# Altium schematic symbol library Altera Cyclone V GX.SchLib: 50 symbols (part 1 of 31)
Pins are listed as number, name and electrical type; pins without a type are passive.

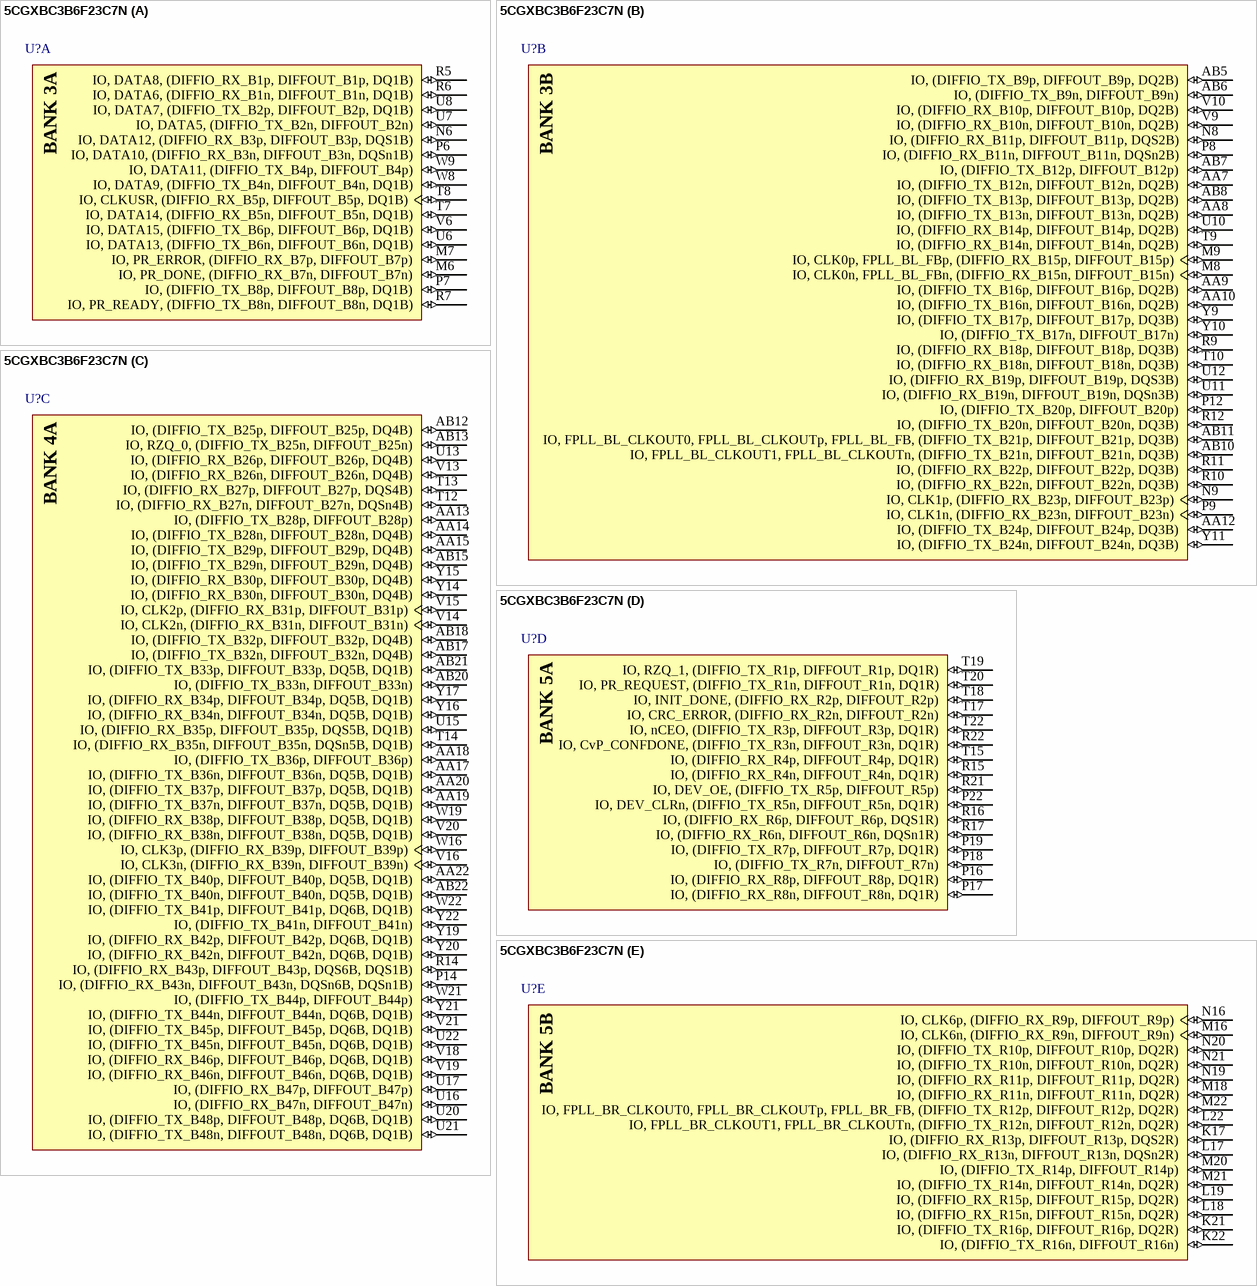
[diagram p0: symbol 5CGXBC3B6F23C7N]

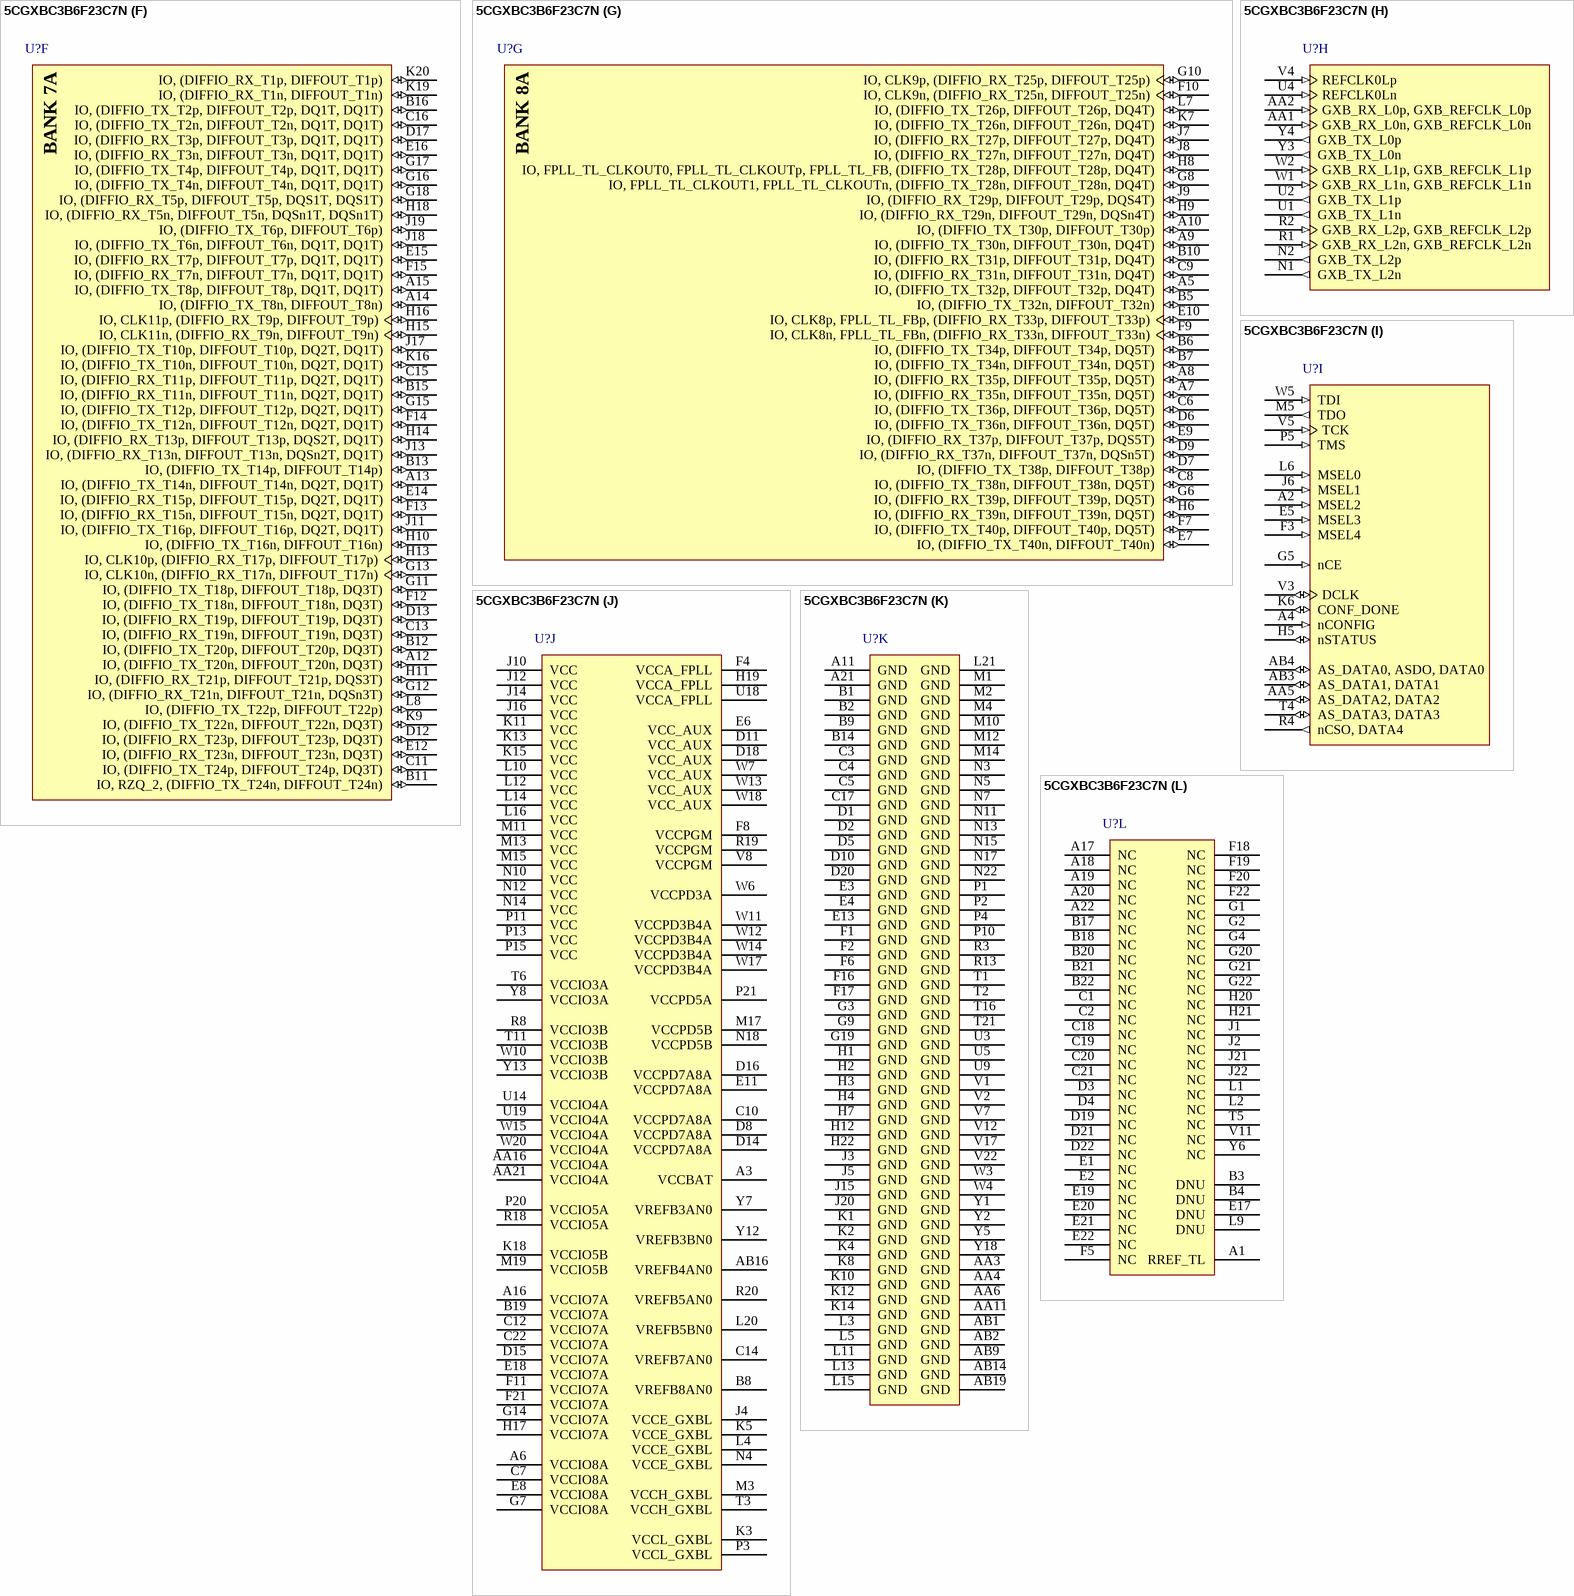
[diagram p1: symbol 5CGXBC3B6F23C7N]

## 5CGXBC3B6F23C7N
designator U?
Cyclone V GX Family FPGA, 1.07 to 1.13 V Supply, 208 I/O Pins, 4 PLLs, 484-Pin FBGA, Speed Grade 7, Commercial Grade, RoHS Compliant; Manufacturer: Altera; PartNumber: 5CGXBC3B6F23C7N; Device Group: 5CGXBC3; GPIO: 208; Logic Elements (LE) (K): 31.5; Speed Grade: 7; DatasheetVersion: Rev. 3.1; PackageVersion: 2; PackageReference: 484-FBGA-2000A; PackageDescription: 484-Pin FineLine Ball-Grid Array (FBGA), Body 23 x 23 mm, Pitch 1 mm; Supplier 1: Digi-Key; Supplier Part Number 1: 5CGXBC3B6F23C7N-ND; Supplier 2: Mouser; Supplier Part Number 2: 989-5CGXBC3B6F23C7N; RoHS: RoHS Compliant; Subcategory: Cyclone V GX; Voltage Supply: 1.07 to 1.13 V; Mounting Technology: Surface Mount; Code_JEDEC: MS-034-AAJ-1; ComponentLink1Description: Manufacturer URL; ComponentLink1URL: http://www.altera.com; ComponentLink2Description: Datasheet; ComponentLink2URL: http://www.altera.com/literature/hb/cyclone-v/cv_51002.pdf; ComponentLink3Description: Package Specification; ComponentLink3URL: http://www.altera.com/devicepackaging/04R00434-01.pdf; ComponentLink4Description: Device Handbook URL; ComponentLink4URL: http://www.altera.com/literature/hb/cyclone-v/cyclone5_handbook.pdf; ComponentLink5Description: Device Overview URL; ComponentLink5URL: http://www.altera.com/literature/hb/cyclone-v/cv_51001.pdf; ComponentLink6Description: Device Pin-Out URL; ComponentLink6URL: http://www.altera.com/literature/dp/cyclone-v/1.txt; ComponentLink7Description: Product URL; ComponentLink7URL: http://www.buyaltera.com/scripts/partsearch.dll?Detail&name=5CGXBC3B6F23C7N-ND
footprint ALTR-484-FBGA-2000A (FBGA, 484-Balls, Body 23x23mm, Pitch 1mm, Recommended)
part A pins: M6 IO, PR_DONE, (DIFFIO_RX_B7n, DIFFOUT_B7n) (io), M7 IO, PR_ERROR, (DIFFIO_RX_B7p, DIFFOUT_B7p) (io), N6 IO, DATA12, (DIFFIO_RX_B3p, DIFFOUT_B3p, DQS1B) (io), P6 IO, DATA10, (DIFFIO_RX_B3n, DIFFOUT_B3n, DQSn1B) (io), P7 IO, (DIFFIO_TX_B8p, DIFFOUT_B8p, DQ1B) (io), R5 IO, DATA8, (DIFFIO_RX_B1p, DIFFOUT_B1p, DQ1B) (io), R6 IO, DATA6, (DIFFIO_RX_B1n, DIFFOUT_B1n, DQ1B) (io), R7 IO, PR_READY, (DIFFIO_TX_B8n, DIFFOUT_B8n, DQ1B) (io), T7 IO, DATA14, (DIFFIO_RX_B5n, DIFFOUT_B5n, DQ1B) (io), T8 IO, CLKUSR, (DIFFIO_RX_B5p, DIFFOUT_B5p, DQ1B) (io), U6 IO, DATA13, (DIFFIO_TX_B6n, DIFFOUT_B6n, DQ1B) (io), U7 IO, DATA5, (DIFFIO_TX_B2n, DIFFOUT_B2n) (io), U8 IO, DATA7, (DIFFIO_TX_B2p, DIFFOUT_B2p, DQ1B) (io), V6 IO, DATA15, (DIFFIO_TX_B6p, DIFFOUT_B6p, DQ1B) (io), W8 IO, DATA9, (DIFFIO_TX_B4n, DIFFOUT_B4n, DQ1B) (io), W9 IO, DATA11, (DIFFIO_TX_B4p, DIFFOUT_B4p) (io)
part B pins: AA7 IO, (DIFFIO_TX_B12n, DIFFOUT_B12n, DQ2B) (io), AA8 IO, (DIFFIO_TX_B13n, DIFFOUT_B13n, DQ2B) (io), AA9 IO, (DIFFIO_TX_B16p, DIFFOUT_B16p, DQ2B) (io), AA10 IO, (DIFFIO_TX_B16n, DIFFOUT_B16n, DQ2B) (io), AA12 IO, (DIFFIO_TX_B24p, DIFFOUT_B24p, DQ3B) (io), AB5 IO, (DIFFIO_TX_B9p, DIFFOUT_B9p, DQ2B) (io), AB6 IO, (DIFFIO_TX_B9n, DIFFOUT_B9n) (io), AB7 IO, (DIFFIO_TX_B12p, DIFFOUT_B12p) (io), AB8 IO, (DIFFIO_TX_B13p, DIFFOUT_B13p, DQ2B) (io), AB10 IO, FPLL_BL_CLKOUT1, FPLL_BL_CLKOUTn, (DIFFIO_TX_B21n, DIFFOUT_B21n, DQ3B) (io), AB11 IO, FPLL_BL_CLKOUT0, FPLL_BL_CLKOUTp, FPLL_BL_FB, (DIFFIO_TX_B21p, DIFFOUT_B21p, DQ3B) (io), M8 IO, CLK0n, FPLL_BL_FBn, (DIFFIO_RX_B15n, DIFFOUT_B15n) (io), M9 IO, CLK0p, FPLL_BL_FBp, (DIFFIO_RX_B15p, DIFFOUT_B15p) (io), N8 IO, (DIFFIO_RX_B11p, DIFFOUT_B11p, DQS2B) (io), N9 IO, CLK1p, (DIFFIO_RX_B23p, DIFFOUT_B23p) (io), P8 IO, (DIFFIO_RX_B11n, DIFFOUT_B11n, DQSn2B) (io), P9 IO, CLK1n, (DIFFIO_RX_B23n, DIFFOUT_B23n) (io), P12 IO, (DIFFIO_TX_B20p, DIFFOUT_B20p) (io), R9 IO, (DIFFIO_RX_B18p, DIFFOUT_B18p, DQ3B) (io), R10 IO, (DIFFIO_RX_B22n, DIFFOUT_B22n, DQ3B) (io), R11 IO, (DIFFIO_RX_B22p, DIFFOUT_B22p, DQ3B) (io), R12 IO, (DIFFIO_TX_B20n, DIFFOUT_B20n, DQ3B) (io), T9 IO, (DIFFIO_RX_B14n, DIFFOUT_B14n, DQ2B) (io), T10 IO, (DIFFIO_RX_B18n, DIFFOUT_B18n, DQ3B) (io), U10 IO, (DIFFIO_RX_B14p, DIFFOUT_B14p, DQ2B) (io), U11 IO, (DIFFIO_RX_B19n, DIFFOUT_B19n, DQSn3B) (io), U12 IO, (DIFFIO_RX_B19p, DIFFOUT_B19p, DQS3B) (io), V9 IO, (DIFFIO_RX_B10n, DIFFOUT_B10n, DQ2B) (io), V10 IO, (DIFFIO_RX_B10p, DIFFOUT_B10p, DQ2B) (io), Y9 IO, (DIFFIO_TX_B17p, DIFFOUT_B17p, DQ3B) (io), Y10 IO, (DIFFIO_TX_B17n, DIFFOUT_B17n) (io), Y11 IO, (DIFFIO_TX_B24n, DIFFOUT_B24n, DQ3B) (io)
part C pins: AA13 IO, (DIFFIO_TX_B28p, DIFFOUT_B28p) (io), AA14 IO, (DIFFIO_TX_B28n, DIFFOUT_B28n, DQ4B) (io), AA15 IO, (DIFFIO_TX_B29p, DIFFOUT_B29p, DQ4B) (io), AA17 IO, (DIFFIO_TX_B36n, DIFFOUT_B36n, DQ5B, DQ1B) (io), AA18 IO, (DIFFIO_TX_B36p, DIFFOUT_B36p) (io), AA19 IO, (DIFFIO_TX_B37n, DIFFOUT_B37n, DQ5B, DQ1B) (io), AA20 IO, (DIFFIO_TX_B37p, DIFFOUT_B37p, DQ5B, DQ1B) (io), AA22 IO, (DIFFIO_TX_B40p, DIFFOUT_B40p, DQ5B, DQ1B) (io), AB12 IO, (DIFFIO_TX_B25p, DIFFOUT_B25p, DQ4B) (io), AB13 IO, RZQ_0, (DIFFIO_TX_B25n, DIFFOUT_B25n) (io), AB15 IO, (DIFFIO_TX_B29n, DIFFOUT_B29n, DQ4B) (io), AB17 IO, (DIFFIO_TX_B32n, DIFFOUT_B32n, DQ4B) (io), AB18 IO, (DIFFIO_TX_B32p, DIFFOUT_B32p, DQ4B) (io), AB20 IO, (DIFFIO_TX_B33n, DIFFOUT_B33n) (io), AB21 IO, (DIFFIO_TX_B33p, DIFFOUT_B33p, DQ5B, DQ1B) (io), AB22 IO, (DIFFIO_TX_B40n, DIFFOUT_B40n, DQ5B, DQ1B) (io), P14 IO, (DIFFIO_RX_B43n, DIFFOUT_B43n, DQSn6B, DQSn1B) (io), R14 IO, (DIFFIO_RX_B43p, DIFFOUT_B43p, DQS6B, DQS1B) (io), T12 IO, (DIFFIO_RX_B27n, DIFFOUT_B27n, DQSn4B) (io), T13 IO, (DIFFIO_RX_B27p, DIFFOUT_B27p, DQS4B) (io), T14 IO, (DIFFIO_RX_B35n, DIFFOUT_B35n, DQSn5B, DQ1B) (io), U13 IO, (DIFFIO_RX_B26p, DIFFOUT_B26p, DQ4B) (io), U15 IO, (DIFFIO_RX_B35p, DIFFOUT_B35p, DQS5B, DQ1B) (io), U16 IO, (DIFFIO_RX_B47n, DIFFOUT_B47n) (io), U17 IO, (DIFFIO_RX_B47p, DIFFOUT_B47p) (io), U20 IO, (DIFFIO_TX_B48p, DIFFOUT_B48p, DQ6B, DQ1B) (io), U21 IO, (DIFFIO_TX_B48n, DIFFOUT_B48n, DQ6B, DQ1B) (io), U22 IO, (DIFFIO_TX_B45n, DIFFOUT_B45n, DQ6B, DQ1B) (io), V13 IO, (DIFFIO_RX_B26n, DIFFOUT_B26n, DQ4B) (io), V14 IO, CLK2n, (DIFFIO_RX_B31n, DIFFOUT_B31n) (io), V15 IO, CLK2p, (DIFFIO_RX_B31p, DIFFOUT_B31p) (io), V16 IO, CLK3n, (DIFFIO_RX_B39n, DIFFOUT_B39n) (io), V18 IO, (DIFFIO_RX_B46p, DIFFOUT_B46p, DQ6B, DQ1B) (io), V19 IO, (DIFFIO_RX_B46n, DIFFOUT_B46n, DQ6B, DQ1B) (io), V20 IO, (DIFFIO_RX_B38n, DIFFOUT_B38n, DQ5B, DQ1B) (io), V21 IO, (DIFFIO_TX_B45p, DIFFOUT_B45p, DQ6B, DQ1B) (io), W16 IO, CLK3p, (DIFFIO_RX_B39p, DIFFOUT_B39p) (io), W19 IO, (DIFFIO_RX_B38p, DIFFOUT_B38p, DQ5B, DQ1B) (io), W21 IO, (DIFFIO_TX_B44p, DIFFOUT_B44p) (io), W22 IO, (DIFFIO_TX_B41p, DIFFOUT_B41p, DQ6B, DQ1B) (io), Y14 IO, (DIFFIO_RX_B30n, DIFFOUT_B30n, DQ4B) (io), Y15 IO, (DIFFIO_RX_B30p, DIFFOUT_B30p, DQ4B) (io), Y16 IO, (DIFFIO_RX_B34n, DIFFOUT_B34n, DQ5B, DQ1B) (io), Y17 IO, (DIFFIO_RX_B34p, DIFFOUT_B34p, DQ5B, DQ1B) (io), Y19 IO, (DIFFIO_RX_B42p, DIFFOUT_B42p, DQ6B, DQ1B) (io), Y20 IO, (DIFFIO_RX_B42n, DIFFOUT_B42n, DQ6B, DQ1B) (io), Y21 IO, (DIFFIO_TX_B44n, DIFFOUT_B44n, DQ6B, DQ1B) (io), Y22 IO, (DIFFIO_TX_B41n, DIFFOUT_B41n) (io)
part D pins: P16 IO, (DIFFIO_RX_R8p, DIFFOUT_R8p, DQ1R) (io), P17 IO, (DIFFIO_RX_R8n, DIFFOUT_R8n, DQ1R) (io), P18 IO, (DIFFIO_TX_R7n, DIFFOUT_R7n) (io), P19 IO, (DIFFIO_TX_R7p, DIFFOUT_R7p, DQ1R) (io), P22 IO, DEV_CLRn, (DIFFIO_TX_R5n, DIFFOUT_R5n, DQ1R) (io), R15 IO, (DIFFIO_RX_R4n, DIFFOUT_R4n, DQ1R) (io), R16 IO, (DIFFIO_RX_R6p, DIFFOUT_R6p, DQS1R) (io), R17 IO, (DIFFIO_RX_R6n, DIFFOUT_R6n, DQSn1R) (io), R21 IO, DEV_OE, (DIFFIO_TX_R5p, DIFFOUT_R5p) (io), R22 IO, CvP_CONFDONE, (DIFFIO_TX_R3n, DIFFOUT_R3n, DQ1R) (io), T15 IO, (DIFFIO_RX_R4p, DIFFOUT_R4p, DQ1R) (io), T17 IO, CRC_ERROR, (DIFFIO_RX_R2n, DIFFOUT_R2n) (io), T18 IO, INIT_DONE, (DIFFIO_RX_R2p, DIFFOUT_R2p) (io), T19 IO, RZQ_1, (DIFFIO_TX_R1p, DIFFOUT_R1p, DQ1R) (io), T20 IO, PR_REQUEST, (DIFFIO_TX_R1n, DIFFOUT_R1n, DQ1R) (io), T22 IO, nCEO, (DIFFIO_TX_R3p, DIFFOUT_R3p, DQ1R) (io)
part E pins: K17 IO, (DIFFIO_RX_R13p, DIFFOUT_R13p, DQS2R) (io), K21 IO, (DIFFIO_TX_R16p, DIFFOUT_R16p, DQ2R) (io), K22 IO, (DIFFIO_TX_R16n, DIFFOUT_R16n) (io), L17 IO, (DIFFIO_RX_R13n, DIFFOUT_R13n, DQSn2R) (io), L18 IO, (DIFFIO_RX_R15n, DIFFOUT_R15n, DQ2R) (io), L19 IO, (DIFFIO_RX_R15p, DIFFOUT_R15p, DQ2R) (io), L22 IO, FPLL_BR_CLKOUT1, FPLL_BR_CLKOUTn, (DIFFIO_TX_R12n, DIFFOUT_R12n, DQ2R) (io), M16 IO, CLK6n, (DIFFIO_RX_R9n, DIFFOUT_R9n) (io), M18 IO, (DIFFIO_RX_R11n, DIFFOUT_R11n, DQ2R) (io), M20 IO, (DIFFIO_TX_R14p, DIFFOUT_R14p) (io), M21 IO, (DIFFIO_TX_R14n, DIFFOUT_R14n, DQ2R) (io), M22 IO, FPLL_BR_CLKOUT0, FPLL_BR_CLKOUTp, FPLL_BR_FB, (DIFFIO_TX_R12p, DIFFOUT_R12p, DQ2R) (io), N16 IO, CLK6p, (DIFFIO_RX_R9p, DIFFOUT_R9p) (io), N19 IO, (DIFFIO_RX_R11p, DIFFOUT_R11p, DQ2R) (io), N20 IO, (DIFFIO_TX_R10p, DIFFOUT_R10p, DQ2R) (io), N21 IO, (DIFFIO_TX_R10n, DIFFOUT_R10n, DQ2R) (io)
part F pins: A12 IO, (DIFFIO_TX_T20n, DIFFOUT_T20n, DQ3T) (io), A13 IO, (DIFFIO_TX_T14n, DIFFOUT_T14n, DQ2T, DQ1T) (io), A14 IO, (DIFFIO_TX_T8n, DIFFOUT_T8n) (io), A15 IO, (DIFFIO_TX_T8p, DIFFOUT_T8p, DQ1T, DQ1T) (io), B11 IO, RZQ_2, (DIFFIO_TX_T24n, DIFFOUT_T24n) (io), B12 IO, (DIFFIO_TX_T20p, DIFFOUT_T20p, DQ3T) (io), B13 IO, (DIFFIO_TX_T14p, DIFFOUT_T14p) (io), B15 IO, (DIFFIO_RX_T11n, DIFFOUT_T11n, DQ2T, DQ1T) (io), B16 IO, (DIFFIO_TX_T2p, DIFFOUT_T2p, DQ1T, DQ1T) (io), C11 IO, (DIFFIO_TX_T24p, DIFFOUT_T24p, DQ3T) (io), C13 IO, (DIFFIO_RX_T19n, DIFFOUT_T19n, DQ3T) (io), C15 IO, (DIFFIO_RX_T11p, DIFFOUT_T11p, DQ2T, DQ1T) (io), C16 IO, (DIFFIO_TX_T2n, DIFFOUT_T2n, DQ1T, DQ1T) (io), D12 IO, (DIFFIO_RX_T23p, DIFFOUT_T23p, DQ3T) (io), D13 IO, (DIFFIO_RX_T19p, DIFFOUT_T19p, DQ3T) (io), D17 IO, (DIFFIO_RX_T3p, DIFFOUT_T3p, DQ1T, DQ1T) (io), E12 IO, (DIFFIO_RX_T23n, DIFFOUT_T23n, DQ3T) (io), E14 IO, (DIFFIO_RX_T15p, DIFFOUT_T15p, DQ2T, DQ1T) (io), E15 IO, (DIFFIO_RX_T7p, DIFFOUT_T7p, DQ1T, DQ1T) (io), E16 IO, (DIFFIO_RX_T3n, DIFFOUT_T3n, DQ1T, DQ1T) (io), F12 IO, (DIFFIO_TX_T18n, DIFFOUT_T18n, DQ3T) (io), F13 IO, (DIFFIO_RX_T15n, DIFFOUT_T15n, DQ2T, DQ1T) (io), F14 IO, (DIFFIO_TX_T12n, DIFFOUT_T12n, DQ2T, DQ1T) (io), F15 IO, (DIFFIO_RX_T7n, DIFFOUT_T7n, DQ1T, DQ1T) (io), G11 IO, (DIFFIO_TX_T18p, DIFFOUT_T18p, DQ3T) (io), G12 IO, (DIFFIO_RX_T21n, DIFFOUT_T21n, DQSn3T) (io), G13 IO, CLK10n, (DIFFIO_RX_T17n, DIFFOUT_T17n) (io), G15 IO, (DIFFIO_TX_T12p, DIFFOUT_T12p, DQ2T, DQ1T) (io), G16 IO, (DIFFIO_TX_T4n, DIFFOUT_T4n, DQ1T, DQ1T) (io), G17 IO, (DIFFIO_TX_T4p, DIFFOUT_T4p, DQ1T, DQ1T) (io), G18 IO, (DIFFIO_RX_T5p, DIFFOUT_T5p, DQS1T, DQS1T) (io), H10 IO, (DIFFIO_TX_T16n, DIFFOUT_T16n) (io), H11 IO, (DIFFIO_RX_T21p, DIFFOUT_T21p, DQS3T) (io), H13 IO, CLK10p, (DIFFIO_RX_T17p, DIFFOUT_T17p) (io), H14 IO, (DIFFIO_RX_T13p, DIFFOUT_T13p, DQS2T, DQ1T) (io), H15 IO, CLK11n, (DIFFIO_RX_T9n, DIFFOUT_T9n) (io), H16 IO, CLK11p, (DIFFIO_RX_T9p, DIFFOUT_T9p) (io), H18 IO, (DIFFIO_RX_T5n, DIFFOUT_T5n, DQSn1T, DQSn1T) (io), J11 IO, (DIFFIO_TX_T16p, DIFFOUT_T16p, DQ2T, DQ1T) (io), J13 IO, (DIFFIO_RX_T13n, DIFFOUT_T13n, DQSn2T, DQ1T) (io), J17 IO, (DIFFIO_TX_T10p, DIFFOUT_T10p, DQ2T, DQ1T) (io), J18 IO, (DIFFIO_TX_T6n, DIFFOUT_T6n, DQ1T, DQ1T) (io), J19 IO, (DIFFIO_TX_T6p, DIFFOUT_T6p) (io), K9 IO, (DIFFIO_TX_T22n, DIFFOUT_T22n, DQ3T) (io), K16 IO, (DIFFIO_TX_T10n, DIFFOUT_T10n, DQ2T, DQ1T) (io), K19 IO, (DIFFIO_RX_T1n, DIFFOUT_T1n) (io), K20 IO, (DIFFIO_RX_T1p, DIFFOUT_T1p) (io), L8 IO, (DIFFIO_TX_T22p, DIFFOUT_T22p) (io)
part G pins: A5 IO, (DIFFIO_TX_T32p, DIFFOUT_T32p, DQ4T) (io), A7 IO, (DIFFIO_RX_T35n, DIFFOUT_T35n, DQ5T) (io), A8 IO, (DIFFIO_RX_T35p, DIFFOUT_T35p, DQ5T) (io), A9 IO, (DIFFIO_TX_T30n, DIFFOUT_T30n, DQ4T) (io), A10 IO, (DIFFIO_TX_T30p, DIFFOUT_T30p) (io), B5 IO, (DIFFIO_TX_T32n, DIFFOUT_T32n) (io), B6 IO, (DIFFIO_TX_T34p, DIFFOUT_T34p, DQ5T) (io), B7 IO, (DIFFIO_TX_T34n, DIFFOUT_T34n, DQ5T) (io), B10 IO, (DIFFIO_RX_T31p, DIFFOUT_T31p, DQ4T) (io), C6 IO, (DIFFIO_TX_T36p, DIFFOUT_T36p, DQ5T) (io), C8 IO, (DIFFIO_TX_T38n, DIFFOUT_T38n, DQ5T) (io), C9 IO, (DIFFIO_RX_T31n, DIFFOUT_T31n, DQ4T) (io), D6 IO, (DIFFIO_TX_T36n, DIFFOUT_T36n, DQ5T) (io), D7 IO, (DIFFIO_TX_T38p, DIFFOUT_T38p) (io), D9 IO, (DIFFIO_RX_T37n, DIFFOUT_T37n, DQSn5T) (io), E7 IO, (DIFFIO_TX_T40n, DIFFOUT_T40n) (io), E9 IO, (DIFFIO_RX_T37p, DIFFOUT_T37p, DQS5T) (io), E10 IO, CLK8p, FPLL_TL_FBp, (DIFFIO_RX_T33p, DIFFOUT_T33p) (io), F7 IO, (DIFFIO_TX_T40p, DIFFOUT_T40p, DQ5T) (io), F9 IO, CLK8n, FPLL_TL_FBn, (DIFFIO_RX_T33n, DIFFOUT_T33n) (io), F10 IO, CLK9n, (DIFFIO_RX_T25n, DIFFOUT_T25n) (io), G6 IO, (DIFFIO_RX_T39p, DIFFOUT_T39p, DQ5T) (io), G8 IO, FPLL_TL_CLKOUT1, FPLL_TL_CLKOUTn, (DIFFIO_TX_T28n, DIFFOUT_T28n, DQ4T) (io), G10 IO, CLK9p, (DIFFIO_RX_T25p, DIFFOUT_T25p) (io), H6 IO, (DIFFIO_RX_T39n, DIFFOUT_T39n, DQ5T) (io), H8 IO, FPLL_TL_CLKOUT0, FPLL_TL_CLKOUTp, FPLL_TL_FB, (DIFFIO_TX_T28p, DIFFOUT_T28p, DQ4T) (io), H9 IO, (DIFFIO_RX_T29n, DIFFOUT_T29n, DQSn4T) (io), J7 IO, (DIFFIO_RX_T27p, DIFFOUT_T27p, DQ4T) (io), J8 IO, (DIFFIO_RX_T27n, DIFFOUT_T27n, DQ4T) (io), J9 IO, (DIFFIO_RX_T29p, DIFFOUT_T29p, DQS4T) (io), K7 IO, (DIFFIO_TX_T26n, DIFFOUT_T26n, DQ4T) (io), L7 IO, (DIFFIO_TX_T26p, DIFFOUT_T26p, DQ4T) (io)
part H pins: AA1 GXB_RX_L0n, GXB_REFCLK_L0n (in), AA2 GXB_RX_L0p, GXB_REFCLK_L0p (in), N1 GXB_TX_L2n (out), N2 GXB_TX_L2p (out), R1 GXB_RX_L2n, GXB_REFCLK_L2n (in), R2 GXB_RX_L2p, GXB_REFCLK_L2p (in), U1 GXB_TX_L1n (out), U2 GXB_TX_L1p (out), U4 REFCLK0Ln (in), V4 REFCLK0Lp (in), W1 GXB_RX_L1n, GXB_REFCLK_L1n (in), W2 GXB_RX_L1p, GXB_REFCLK_L1p (in), Y3 GXB_TX_L0n (out), Y4 GXB_TX_L0p (out)
part I pins: A2 MSEL2 (in), A4 nCONFIG (in), AA5 AS_DATA2, DATA2 (io), AB3 AS_DATA1, DATA1 (io), AB4 AS_DATA0, ASDO, DATA0 (io), E5 MSEL3 (in), F3 MSEL4 (in), G5 nCE (in), H5 nSTATUS (io), J6 MSEL1 (in), K6 CONF_DONE (io), L6 MSEL0 (in), M5 TDO (out), P5 TMS (in), R4 nCSO, DATA4 (out), T4 AS_DATA3, DATA3 (io), V3 DCLK (io), V5 TCK (in), W5 TDI (in)
part J pins: A3 VCCBAT (power), A6 VCCIO8A (power), A16 VCCIO7A (power), AA16 VCCIO4A (power), AA21 VCCIO4A (power), AB16 VREFB4AN0 (power), B8 VREFB8AN0 (power), B19 VCCIO7A (power), C7 VCCIO8A (power), C10 VCCPD7A8A (power), C12 VCCIO7A (power), C14 VREFB7AN0 (power), C22 VCCIO7A (power), D8 VCCPD7A8A (power), D11 VCC_AUX (power), D14 VCCPD7A8A (power), D15 VCCIO7A (power), D16 VCCPD7A8A (power), D18 VCC_AUX (power), E6 VCC_AUX (power), E8 VCCIO8A (power), E11 VCCPD7A8A (power), E18 VCCIO7A (power), F4 VCCA_FPLL (power), F8 VCCPGM (power), F11 VCCIO7A (power), F21 VCCIO7A (power), G7 VCCIO8A (power), G14 VCCIO7A (power), H17 VCCIO7A (power), H19 VCCA_FPLL (power), J4 VCCE_GXBL (power), J10 VCC (power), J12 VCC (power), J14 VCC (power), J16 VCC (power), K3 VCCL_GXBL (power), K5 VCCE_GXBL (power), K11 VCC (power), K13 VCC (power), K15 VCC (power), K18 VCCIO5B (power), L4 VCCE_GXBL (power), L10 VCC (power), L12 VCC (power), L14 VCC (power), L16 VCC (power), L20 VREFB5BN0 (power), M3 VCCH_GXBL (power), M11 VCC (power), M13 VCC (power), M15 VCC (power), M17 VCCPD5B (power), M19 VCCIO5B (power), N4 VCCE_GXBL (power), N10 VCC (power), N12 VCC (power), N14 VCC (power), N18 VCCPD5B (power), P3 VCCL_GXBL (power), P11 VCC (power), P13 VCC (power), P15 VCC (power), P20 VCCIO5A (power), P21 VCCPD5A (power), R8 VCCIO3B (power), R18 VCCIO5A (power), R19 VCCPGM (power), R20 VREFB5AN0 (power), T3 VCCH_GXBL (power), T6 VCCIO3A (power), T11 VCCIO3B (power), U14 VCCIO4A (power), U18 VCCA_FPLL (power), U19 VCCIO4A (power), V8 VCCPGM (power), W6 VCCPD3A (power), W7 VCC_AUX (power), W10 VCCIO3B (power), W11 VCCPD3B4A (power), W12 VCCPD3B4A (power), W13 VCC_AUX (power), W14 VCCPD3B4A (power), W15 VCCIO4A (power), W17 VCCPD3B4A (power), W18 VCC_AUX (power), W20 VCCIO4A (power), Y7 VREFB3AN0 (power), Y8 VCCIO3A (power), Y12 VREFB3BN0 (power), Y13 VCCIO3B (power)
part K pins: A11 GND (power), A21 GND (power), AA3 GND (power), AA4 GND (power), AA6 GND (power), AA11 GND (power), AB1 GND (power), AB2 GND (power), AB9 GND (power), AB14 GND (power), AB19 GND (power), B1 GND (power), B2 GND (power), B9 GND (power), B14 GND (power), C3 GND (power), C4 GND (power), C5 GND (power), C17 GND (power), D1 GND (power), D2 GND (power), D5 GND (power), D10 GND (power), D20 GND (power), E3 GND (power), E4 GND (power), E13 GND (power), F1 GND (power), F2 GND (power), F6 GND (power), F16 GND (power), F17 GND (power), G3 GND (power), G9 GND (power), G19 GND (power), H1 GND (power), H2 GND (power), H3 GND (power), H4 GND (power), H7 GND (power), H12 GND (power), H22 GND (power), J3 GND (power), J5 GND (power), J15 GND (power), J20 GND (power), K1 GND (power), K2 GND (power), K4 GND (power), K8 GND (power), K10 GND (power), K12 GND (power), K14 GND (power), L3 GND (power), L5 GND (power), L11 GND (power), L13 GND (power), L15 GND (power), L21 GND (power), M1 GND (power), M2 GND (power), M4 GND (power), M10 GND (power), M12 GND (power), M14 GND (power), N3 GND (power), N5 GND (power), N7 GND (power), N11 GND (power), N13 GND (power), N15 GND (power), N17 GND (power), N22 GND (power), P1 GND (power), P2 GND (power), P4 GND (power), P10 GND (power), R3 GND (power), R13 GND (power), T1 GND (power), T2 GND (power), T16 GND (power), T21 GND (power), U3 GND (power), U5 GND (power), U9 GND (power), V1 GND (power), V2 GND (power), V7 GND (power), V12 GND (power), V17 GND (power), V22 GND (power), W3 GND (power), W4 GND (power), Y1 GND (power), Y2 GND (power), Y5 GND (power), Y18 GND (power)
part L pins: A1 RREF_TL, A17 NC, A18 NC, A19 NC, A20 NC, A22 NC, B3 DNU, B4 DNU, B17 NC, B18 NC, B20 NC, B21 NC, B22 NC, C1 NC, C2 NC, C18 NC, C19 NC, C20 NC, C21 NC, D3 NC, D4 NC, D19 NC, D21 NC, D22 NC, E1 NC, E2 NC, E17 DNU, E19 NC, E20 NC, E21 NC, E22 NC, F5 NC, F18 NC, F19 NC, F20 NC, F22 NC, G1 NC, G2 NC, G4 NC, G20 NC, G21 NC, G22 NC, H20 NC, H21 NC, J1 NC, J2 NC, J21 NC, J22 NC, L1 NC, L2 NC, L9 DNU, T5 NC, V11 NC, Y6 NC
part A text: BANK 3A
part B text: BANK 3B
part C text: BANK 4A
part D text: BANK 5A
part E text: BANK 5B
part F text: BANK 7A
part G text: BANK 8A

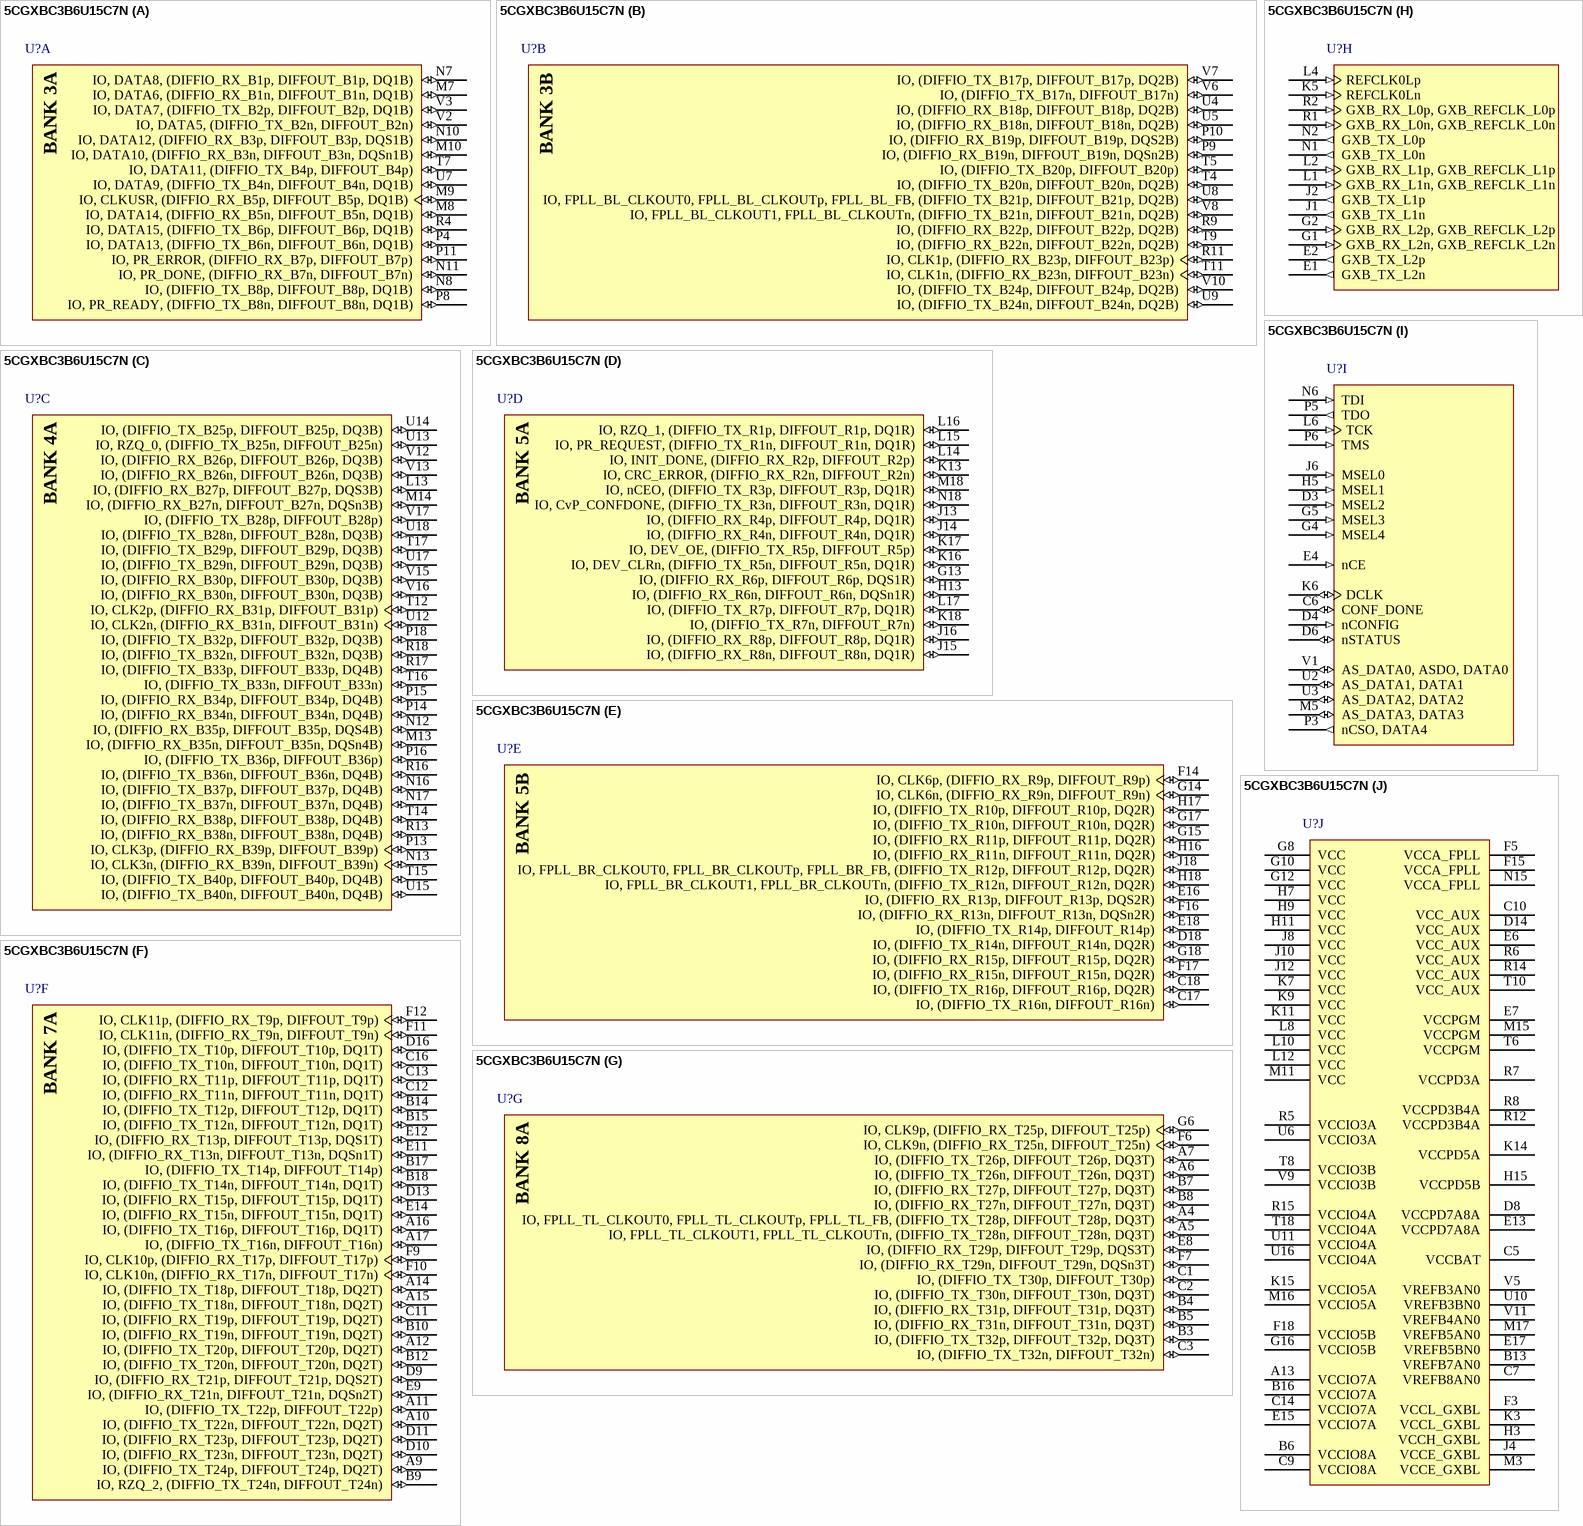
[diagram p2: symbol 5CGXBC3B6U15C7N]

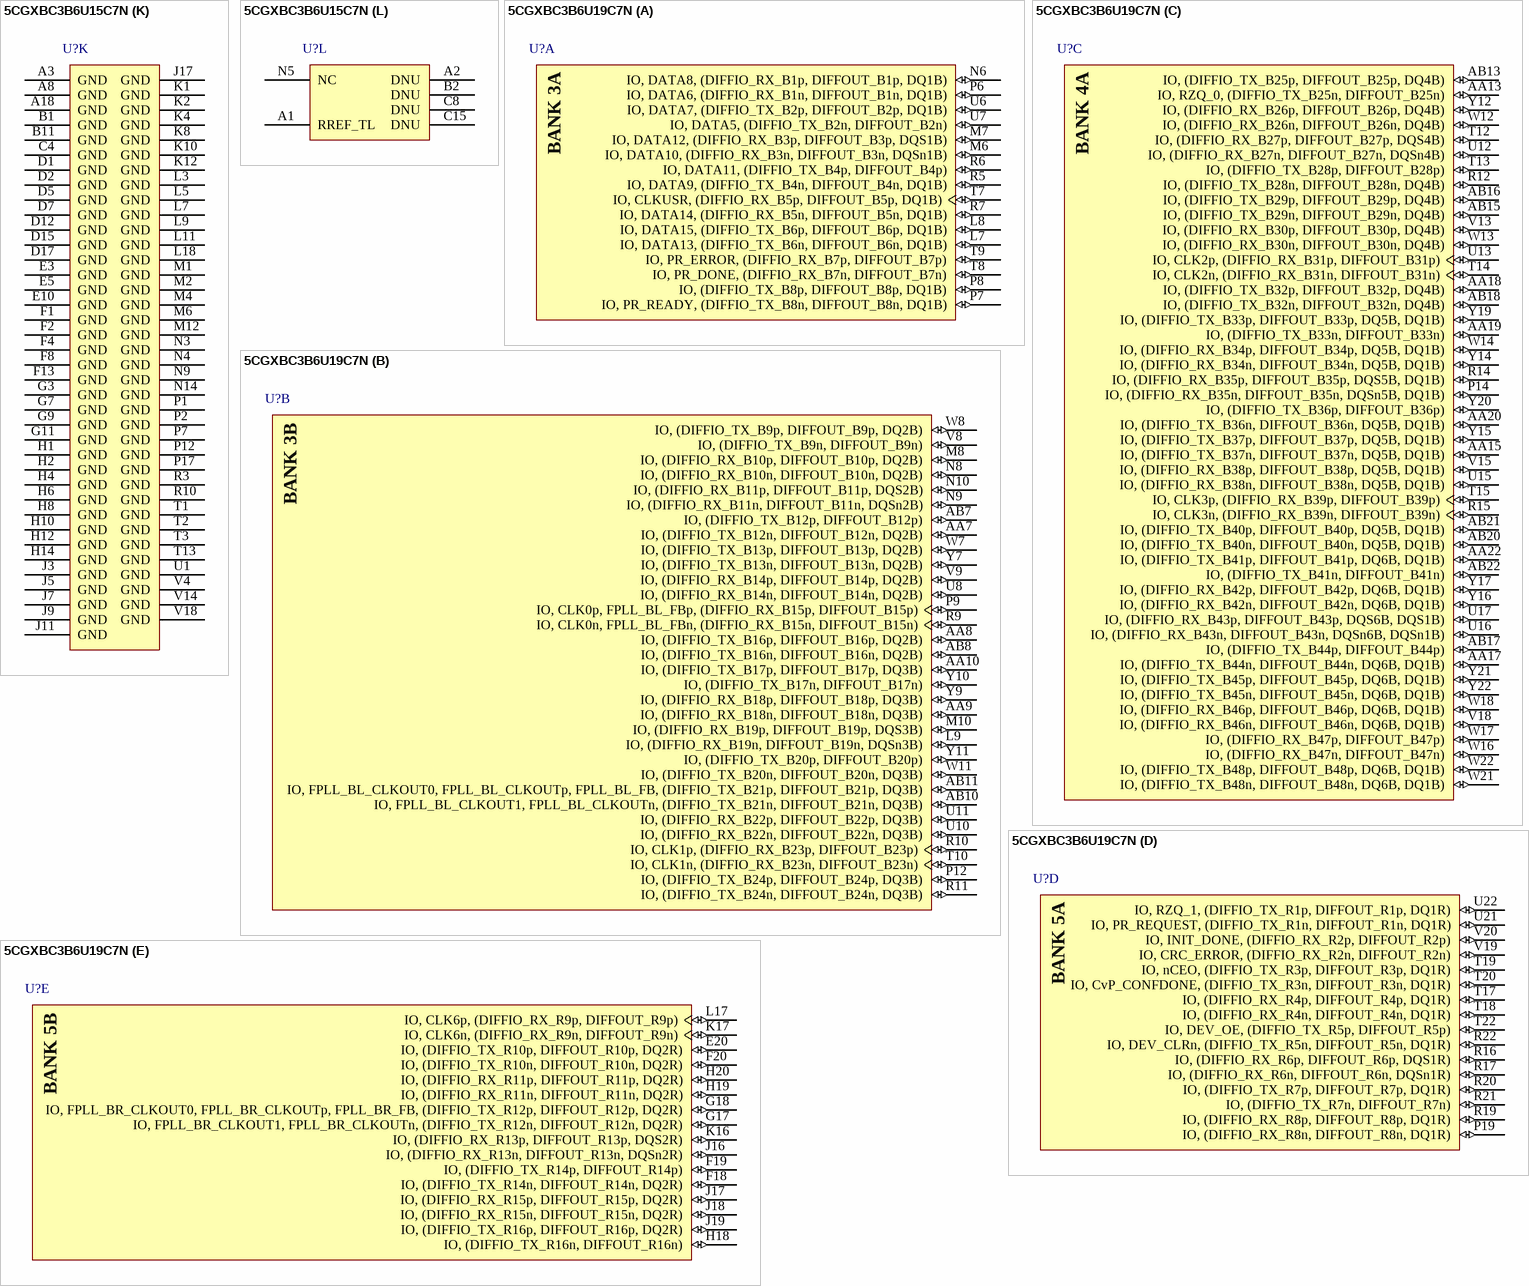
[diagram p3: symbols 5CGXBC3B6U15C7N to 5CGXBC3B6U19C7N]

## 5CGXBC3B6U15C7N
designator U?
Cyclone V GX Family FPGA, 1.07 to 1.13 V Supply, 144 I/O Pins, 4 PLLs, 324-Pin UBGA, Speed Grade 7, Commercial Grade, RoHS Compliant; Manufacturer: Altera; PartNumber: 5CGXBC3B6U15C7N; Device Group: 5CGXBC3; GPIO: 144; Logic Elements (LE) (K): 31.5; Speed Grade: 7; DatasheetVersion: Rev. 3.1; PackageVersion: 1; PackageReference: 324-UBGA-1500A; PackageDescription: 324-Pin Ultra FineLine Ball-Grid Array (UBGA), Body 15 x 15 mm, Pitch 0.8 mm; Supplier 1: Digi-Key; Supplier Part Number 1: 5CGXBC3B6U15C7N-ND; Supplier 2: Mouser; Supplier Part Number 2: 989-5CGXBC3B6U15C7N; RoHS: RoHS Compliant; Subcategory: Cyclone V GX; Voltage Supply: 1.07 to 1.13 V; Mounting Technology: Surface Mount; Code_JEDEC: MO-216-BAK-1; ComponentLink1Description: Manufacturer URL; ComponentLink1URL: http://www.altera.com; ComponentLink2Description: Datasheet; ComponentLink2URL: http://www.altera.com/literature/hb/cyclone-v/cv_51002.pdf; ComponentLink3Description: Package Specification; ComponentLink3URL: http://www.altera.com/devicepackaging/04R00433-00.pdf; ComponentLink4Description: Device Handbook URL; ComponentLink4URL: http://www.altera.com/literature/hb/cyclone-v/cyclone5_handbook.pdf; ComponentLink5Description: Device Overview URL; ComponentLink5URL: http://www.altera.com/literature/hb/cyclone-v/cv_51001.pdf; ComponentLink6Description: Device Pin-Out URL; ComponentLink6URL: http://www.altera.com/literature/dp/cyclone-v/1.txt; ComponentLink7Description: Product URL; ComponentLink7URL: http://www.buyaltera.com/scripts/partsearch.dll?Detail&name=5CGXBC3B6U15C7N-ND
footprint ALTR-324-UBGA-1500A (BGA, 324-Balls, Body 15x15mm, Pitch 0.8mm)
part A pins: M7 IO, DATA6, (DIFFIO_RX_B1n, DIFFOUT_B1n, DQ1B) (io), M8 IO, DATA14, (DIFFIO_RX_B5n, DIFFOUT_B5n, DQ1B) (io), M9 IO, CLKUSR, (DIFFIO_RX_B5p, DIFFOUT_B5p, DQ1B) (io), M10 IO, DATA10, (DIFFIO_RX_B3n, DIFFOUT_B3n, DQSn1B) (io), N7 IO, DATA8, (DIFFIO_RX_B1p, DIFFOUT_B1p, DQ1B) (io), N8 IO, (DIFFIO_TX_B8p, DIFFOUT_B8p, DQ1B) (io), N10 IO, DATA12, (DIFFIO_RX_B3p, DIFFOUT_B3p, DQS1B) (io), N11 IO, PR_DONE, (DIFFIO_RX_B7n, DIFFOUT_B7n) (io), P4 IO, DATA13, (DIFFIO_TX_B6n, DIFFOUT_B6n, DQ1B) (io), P8 IO, PR_READY, (DIFFIO_TX_B8n, DIFFOUT_B8n, DQ1B) (io), P11 IO, PR_ERROR, (DIFFIO_RX_B7p, DIFFOUT_B7p) (io), R4 IO, DATA15, (DIFFIO_TX_B6p, DIFFOUT_B6p, DQ1B) (io), T7 IO, DATA11, (DIFFIO_TX_B4p, DIFFOUT_B4p) (io), U7 IO, DATA9, (DIFFIO_TX_B4n, DIFFOUT_B4n, DQ1B) (io), V2 IO, DATA5, (DIFFIO_TX_B2n, DIFFOUT_B2n) (io), V3 IO, DATA7, (DIFFIO_TX_B2p, DIFFOUT_B2p, DQ1B) (io)
part B pins: P9 IO, (DIFFIO_RX_B19n, DIFFOUT_B19n, DQSn2B) (io), P10 IO, (DIFFIO_RX_B19p, DIFFOUT_B19p, DQS2B) (io), R9 IO, (DIFFIO_RX_B22p, DIFFOUT_B22p, DQ2B) (io), R11 IO, CLK1p, (DIFFIO_RX_B23p, DIFFOUT_B23p) (io), T4 IO, (DIFFIO_TX_B20n, DIFFOUT_B20n, DQ2B) (io), T5 IO, (DIFFIO_TX_B20p, DIFFOUT_B20p) (io), T9 IO, (DIFFIO_RX_B22n, DIFFOUT_B22n, DQ2B) (io), T11 IO, CLK1n, (DIFFIO_RX_B23n, DIFFOUT_B23n) (io), U4 IO, (DIFFIO_RX_B18p, DIFFOUT_B18p, DQ2B) (io), U5 IO, (DIFFIO_RX_B18n, DIFFOUT_B18n, DQ2B) (io), U8 IO, FPLL_BL_CLKOUT0, FPLL_BL_CLKOUTp, FPLL_BL_FB, (DIFFIO_TX_B21p, DIFFOUT_B21p, DQ2B) (io), U9 IO, (DIFFIO_TX_B24n, DIFFOUT_B24n, DQ2B) (io), V6 IO, (DIFFIO_TX_B17n, DIFFOUT_B17n) (io), V7 IO, (DIFFIO_TX_B17p, DIFFOUT_B17p, DQ2B) (io), V8 IO, FPLL_BL_CLKOUT1, FPLL_BL_CLKOUTn, (DIFFIO_TX_B21n, DIFFOUT_B21n, DQ2B) (io), V10 IO, (DIFFIO_TX_B24p, DIFFOUT_B24p, DQ2B) (io)
part C pins: L13 IO, (DIFFIO_RX_B27p, DIFFOUT_B27p, DQS3B) (io), M13 IO, (DIFFIO_RX_B35n, DIFFOUT_B35n, DQSn4B) (io), M14 IO, (DIFFIO_RX_B27n, DIFFOUT_B27n, DQSn3B) (io), N12 IO, (DIFFIO_RX_B35p, DIFFOUT_B35p, DQS4B) (io), N13 IO, CLK3n, (DIFFIO_RX_B39n, DIFFOUT_B39n) (io), N16 IO, (DIFFIO_TX_B37p, DIFFOUT_B37p, DQ4B) (io), N17 IO, (DIFFIO_TX_B37n, DIFFOUT_B37n, DQ4B) (io), P13 IO, CLK3p, (DIFFIO_RX_B39p, DIFFOUT_B39p) (io), P14 IO, (DIFFIO_RX_B34n, DIFFOUT_B34n, DQ4B) (io), P15 IO, (DIFFIO_RX_B34p, DIFFOUT_B34p, DQ4B) (io), P16 IO, (DIFFIO_TX_B36p, DIFFOUT_B36p) (io), P18 IO, (DIFFIO_TX_B32p, DIFFOUT_B32p, DQ3B) (io), R13 IO, (DIFFIO_RX_B38n, DIFFOUT_B38n, DQ4B) (io), R16 IO, (DIFFIO_TX_B36n, DIFFOUT_B36n, DQ4B) (io), R17 IO, (DIFFIO_TX_B33p, DIFFOUT_B33p, DQ4B) (io), R18 IO, (DIFFIO_TX_B32n, DIFFOUT_B32n, DQ3B) (io), T12 IO, CLK2p, (DIFFIO_RX_B31p, DIFFOUT_B31p) (io), T14 IO, (DIFFIO_RX_B38p, DIFFOUT_B38p, DQ4B) (io), T15 IO, (DIFFIO_TX_B40p, DIFFOUT_B40p, DQ4B) (io), T16 IO, (DIFFIO_TX_B33n, DIFFOUT_B33n) (io), T17 IO, (DIFFIO_TX_B29p, DIFFOUT_B29p, DQ3B) (io), U12 IO, CLK2n, (DIFFIO_RX_B31n, DIFFOUT_B31n) (io), U13 IO, RZQ_0, (DIFFIO_TX_B25n, DIFFOUT_B25n) (io), U14 IO, (DIFFIO_TX_B25p, DIFFOUT_B25p, DQ3B) (io), U15 IO, (DIFFIO_TX_B40n, DIFFOUT_B40n, DQ4B) (io), U17 IO, (DIFFIO_TX_B29n, DIFFOUT_B29n, DQ3B) (io), U18 IO, (DIFFIO_TX_B28n, DIFFOUT_B28n, DQ3B) (io), V12 IO, (DIFFIO_RX_B26p, DIFFOUT_B26p, DQ3B) (io), V13 IO, (DIFFIO_RX_B26n, DIFFOUT_B26n, DQ3B) (io), V15 IO, (DIFFIO_RX_B30p, DIFFOUT_B30p, DQ3B) (io), V16 IO, (DIFFIO_RX_B30n, DIFFOUT_B30n, DQ3B) (io), V17 IO, (DIFFIO_TX_B28p, DIFFOUT_B28p) (io)
part D pins: G13 IO, (DIFFIO_RX_R6p, DIFFOUT_R6p, DQS1R) (io), H13 IO, (DIFFIO_RX_R6n, DIFFOUT_R6n, DQSn1R) (io), J13 IO, (DIFFIO_RX_R4p, DIFFOUT_R4p, DQ1R) (io), J14 IO, (DIFFIO_RX_R4n, DIFFOUT_R4n, DQ1R) (io), J15 IO, (DIFFIO_RX_R8n, DIFFOUT_R8n, DQ1R) (io), J16 IO, (DIFFIO_RX_R8p, DIFFOUT_R8p, DQ1R) (io), K13 IO, CRC_ERROR, (DIFFIO_RX_R2n, DIFFOUT_R2n) (io), K16 IO, DEV_CLRn, (DIFFIO_TX_R5n, DIFFOUT_R5n, DQ1R) (io), K17 IO, DEV_OE, (DIFFIO_TX_R5p, DIFFOUT_R5p) (io), K18 IO, (DIFFIO_TX_R7n, DIFFOUT_R7n) (io), L14 IO, INIT_DONE, (DIFFIO_RX_R2p, DIFFOUT_R2p) (io), L15 IO, PR_REQUEST, (DIFFIO_TX_R1n, DIFFOUT_R1n, DQ1R) (io), L16 IO, RZQ_1, (DIFFIO_TX_R1p, DIFFOUT_R1p, DQ1R) (io), L17 IO, (DIFFIO_TX_R7p, DIFFOUT_R7p, DQ1R) (io), M18 IO, nCEO, (DIFFIO_TX_R3p, DIFFOUT_R3p, DQ1R) (io), N18 IO, CvP_CONFDONE, (DIFFIO_TX_R3n, DIFFOUT_R3n, DQ1R) (io)
part E pins: C17 IO, (DIFFIO_TX_R16n, DIFFOUT_R16n) (io), C18 IO, (DIFFIO_TX_R16p, DIFFOUT_R16p, DQ2R) (io), D18 IO, (DIFFIO_TX_R14n, DIFFOUT_R14n, DQ2R) (io), E16 IO, (DIFFIO_RX_R13p, DIFFOUT_R13p, DQS2R) (io), E18 IO, (DIFFIO_TX_R14p, DIFFOUT_R14p) (io), F14 IO, CLK6p, (DIFFIO_RX_R9p, DIFFOUT_R9p) (io), F16 IO, (DIFFIO_RX_R13n, DIFFOUT_R13n, DQSn2R) (io), F17 IO, (DIFFIO_RX_R15n, DIFFOUT_R15n, DQ2R) (io), G14 IO, CLK6n, (DIFFIO_RX_R9n, DIFFOUT_R9n) (io), G15 IO, (DIFFIO_RX_R11p, DIFFOUT_R11p, DQ2R) (io), G17 IO, (DIFFIO_TX_R10n, DIFFOUT_R10n, DQ2R) (io), G18 IO, (DIFFIO_RX_R15p, DIFFOUT_R15p, DQ2R) (io), H16 IO, (DIFFIO_RX_R11n, DIFFOUT_R11n, DQ2R) (io), H17 IO, (DIFFIO_TX_R10p, DIFFOUT_R10p, DQ2R) (io), H18 IO, FPLL_BR_CLKOUT1, FPLL_BR_CLKOUTn, (DIFFIO_TX_R12n, DIFFOUT_R12n, DQ2R) (io), J18 IO, FPLL_BR_CLKOUT0, FPLL_BR_CLKOUTp, FPLL_BR_FB, (DIFFIO_TX_R12p, DIFFOUT_R12p, DQ2R) (io)
part F pins: A9 IO, (DIFFIO_TX_T24p, DIFFOUT_T24p, DQ2T) (io), A10 IO, (DIFFIO_TX_T22n, DIFFOUT_T22n, DQ2T) (io), A11 IO, (DIFFIO_TX_T22p, DIFFOUT_T22p) (io), A12 IO, (DIFFIO_TX_T20p, DIFFOUT_T20p, DQ2T) (io), A14 IO, (DIFFIO_TX_T18p, DIFFOUT_T18p, DQ2T) (io), A15 IO, (DIFFIO_TX_T18n, DIFFOUT_T18n, DQ2T) (io), A16 IO, (DIFFIO_TX_T16p, DIFFOUT_T16p, DQ1T) (io), A17 IO, (DIFFIO_TX_T16n, DIFFOUT_T16n) (io), B9 IO, RZQ_2, (DIFFIO_TX_T24n, DIFFOUT_T24n) (io), B10 IO, (DIFFIO_RX_T19n, DIFFOUT_T19n, DQ2T) (io), B12 IO, (DIFFIO_TX_T20n, DIFFOUT_T20n, DQ2T) (io), B14 IO, (DIFFIO_TX_T12p, DIFFOUT_T12p, DQ1T) (io), B15 IO, (DIFFIO_TX_T12n, DIFFOUT_T12n, DQ1T) (io), B17 IO, (DIFFIO_TX_T14p, DIFFOUT_T14p) (io), B18 IO, (DIFFIO_TX_T14n, DIFFOUT_T14n, DQ1T) (io), C11 IO, (DIFFIO_RX_T19p, DIFFOUT_T19p, DQ2T) (io), C12 IO, (DIFFIO_RX_T11n, DIFFOUT_T11n, DQ1T) (io), C13 IO, (DIFFIO_RX_T11p, DIFFOUT_T11p, DQ1T) (io), C16 IO, (DIFFIO_TX_T10n, DIFFOUT_T10n, DQ1T) (io), D9 IO, (DIFFIO_RX_T21p, DIFFOUT_T21p, DQS2T) (io), D10 IO, (DIFFIO_RX_T23n, DIFFOUT_T23n, DQ2T) (io), D11 IO, (DIFFIO_RX_T23p, DIFFOUT_T23p, DQ2T) (io), D13 IO, (DIFFIO_RX_T15p, DIFFOUT_T15p, DQ1T) (io), D16 IO, (DIFFIO_TX_T10p, DIFFOUT_T10p, DQ1T) (io), E9 IO, (DIFFIO_RX_T21n, DIFFOUT_T21n, DQSn2T) (io), E11 IO, (DIFFIO_RX_T13n, DIFFOUT_T13n, DQSn1T) (io), E12 IO, (DIFFIO_RX_T13p, DIFFOUT_T13p, DQS1T) (io), E14 IO, (DIFFIO_RX_T15n, DIFFOUT_T15n, DQ1T) (io), F9 IO, CLK10p, (DIFFIO_RX_T17p, DIFFOUT_T17p) (io), F10 IO, CLK10n, (DIFFIO_RX_T17n, DIFFOUT_T17n) (io), F11 IO, CLK11n, (DIFFIO_RX_T9n, DIFFOUT_T9n) (io), F12 IO, CLK11p, (DIFFIO_RX_T9p, DIFFOUT_T9p) (io)
part G pins: A4 IO, FPLL_TL_CLKOUT0, FPLL_TL_CLKOUTp, FPLL_TL_FB, (DIFFIO_TX_T28p, DIFFOUT_T28p, DQ3T) (io), A5 IO, FPLL_TL_CLKOUT1, FPLL_TL_CLKOUTn, (DIFFIO_TX_T28n, DIFFOUT_T28n, DQ3T) (io), A6 IO, (DIFFIO_TX_T26n, DIFFOUT_T26n, DQ3T) (io), A7 IO, (DIFFIO_TX_T26p, DIFFOUT_T26p, DQ3T) (io), B3 IO, (DIFFIO_TX_T32p, DIFFOUT_T32p, DQ3T) (io), B4 IO, (DIFFIO_RX_T31p, DIFFOUT_T31p, DQ3T) (io), B5 IO, (DIFFIO_RX_T31n, DIFFOUT_T31n, DQ3T) (io), B7 IO, (DIFFIO_RX_T27p, DIFFOUT_T27p, DQ3T) (io), B8 IO, (DIFFIO_RX_T27n, DIFFOUT_T27n, DQ3T) (io), C1 IO, (DIFFIO_TX_T30p, DIFFOUT_T30p) (io), C2 IO, (DIFFIO_TX_T30n, DIFFOUT_T30n, DQ3T) (io), C3 IO, (DIFFIO_TX_T32n, DIFFOUT_T32n) (io), E8 IO, (DIFFIO_RX_T29p, DIFFOUT_T29p, DQS3T) (io), F6 IO, CLK9n, (DIFFIO_RX_T25n, DIFFOUT_T25n) (io), F7 IO, (DIFFIO_RX_T29n, DIFFOUT_T29n, DQSn3T) (io), G6 IO, CLK9p, (DIFFIO_RX_T25p, DIFFOUT_T25p) (io)
part H pins: E1 GXB_TX_L2n (out), E2 GXB_TX_L2p (out), G1 GXB_RX_L2n, GXB_REFCLK_L2n (in), G2 GXB_RX_L2p, GXB_REFCLK_L2p (in), J1 GXB_TX_L1n (out), J2 GXB_TX_L1p (out), K5 REFCLK0Ln (in), L1 GXB_RX_L1n, GXB_REFCLK_L1n (in), L2 GXB_RX_L1p, GXB_REFCLK_L1p (in), L4 REFCLK0Lp (in), N1 GXB_TX_L0n (out), N2 GXB_TX_L0p (out), R1 GXB_RX_L0n, GXB_REFCLK_L0n (in), R2 GXB_RX_L0p, GXB_REFCLK_L0p (in)
part I pins: C6 CONF_DONE (io), D3 MSEL2 (in), D4 nCONFIG (in), D6 nSTATUS (io), E4 nCE (in), G4 MSEL4 (in), G5 MSEL3 (in), H5 MSEL1 (in), J6 MSEL0 (in), K6 DCLK (io), L6 TCK (in), M5 AS_DATA3, DATA3 (io), N6 TDI (in), P3 nCSO, DATA4 (out), P5 TDO (out), P6 TMS (in), U2 AS_DATA1, DATA1 (io), U3 AS_DATA2, DATA2 (io), V1 AS_DATA0, ASDO, DATA0 (io)
part J pins: A13 VCCIO7A (power), B6 VCCIO8A (power), B13 VREFB7AN0 (power), B16 VCCIO7A (power), C5 VCCBAT (power), C7 VREFB8AN0 (power), C9 VCCIO8A (power), C10 VCC_AUX (power), C14 VCCIO7A (power), D8 VCCPD7A8A (power), D14 VCC_AUX (power), E6 VCC_AUX (power), E7 VCCPGM (power), E13 VCCPD7A8A (power), E15 VCCIO7A (power), E17 VREFB5BN0 (power), F3 VCCL_GXBL (power), F5 VCCA_FPLL (power), F15 VCCA_FPLL (power), F18 VCCIO5B (power), G8 VCC (power), G10 VCC (power), G12 VCC (power), G16 VCCIO5B (power), H3 VCCH_GXBL (power), H7 VCC (power), H9 VCC (power), H11 VCC (power), H15 VCCPD5B (power), J4 VCCE_GXBL (power), J8 VCC (power), J10 VCC (power), J12 VCC (power), K3 VCCL_GXBL (power), K7 VCC (power), K9 VCC (power), K11 VCC (power), K14 VCCPD5A (power), K15 VCCIO5A (power), L8 VCC (power), L10 VCC (power), L12 VCC (power), M3 VCCE_GXBL (power), M11 VCC (power), M15 VCCPGM (power), M16 VCCIO5A (power), M17 VREFB5AN0 (power), N15 VCCA_FPLL (power), R5 VCCIO3A (power), R6 VCC_AUX (power), R7 VCCPD3A (power), R8 VCCPD3B4A (power), R12 VCCPD3B4A (power), R14 VCC_AUX (power), R15 VCCIO4A (power), T6 VCCPGM (power), T8 VCCIO3B (power), T10 VCC_AUX (power), T18 VCCIO4A (power), U6 VCCIO3A (power), U10 VREFB3BN0 (power), U11 VCCIO4A (power), U16 VCCIO4A (power), V5 VREFB3AN0 (power), V9 VCCIO3B (power), V11 VREFB4AN0 (power)
part K pins: A3 GND (power), A8 GND (power), A18 GND (power), B1 GND (power), B11 GND (power), C4 GND (power), D1 GND (power), D2 GND (power), D5 GND (power), D7 GND (power), D12 GND (power), D15 GND (power), D17 GND (power), E3 GND (power), E5 GND (power), E10 GND (power), F1 GND (power), F2 GND (power), F4 GND (power), F8 GND (power), F13 GND (power), G3 GND (power), G7 GND (power), G9 GND (power), G11 GND (power), H1 GND (power), H2 GND (power), H4 GND (power), H6 GND (power), H8 GND (power), H10 GND (power), H12 GND (power), H14 GND (power), J3 GND (power), J5 GND (power), J7 GND (power), J9 GND (power), J11 GND (power), J17 GND (power), K1 GND (power), K2 GND (power), K4 GND (power), K8 GND (power), K10 GND (power), K12 GND (power), L3 GND (power), L5 GND (power), L7 GND (power), L9 GND (power), L11 GND (power), L18 GND (power), M1 GND (power), M2 GND (power), M4 GND (power), M6 GND (power), M12 GND (power), N3 GND (power), N4 GND (power), N9 GND (power), N14 GND (power), P1 GND (power), P2 GND (power), P7 GND (power), P12 GND (power), P17 GND (power), R3 GND (power), R10 GND (power), T1 GND (power), T2 GND (power), T3 GND (power), T13 GND (power), U1 GND (power), V4 GND (power), V14 GND (power), V18 GND (power)
part L pins: A1 RREF_TL, A2 DNU, B2 DNU, C8 DNU, C15 DNU, N5 NC
part A text: BANK 3A
part B text: BANK 3B
part C text: BANK 4A
part D text: BANK 5A
part E text: BANK 5B
part F text: BANK 7A
part G text: BANK 8A

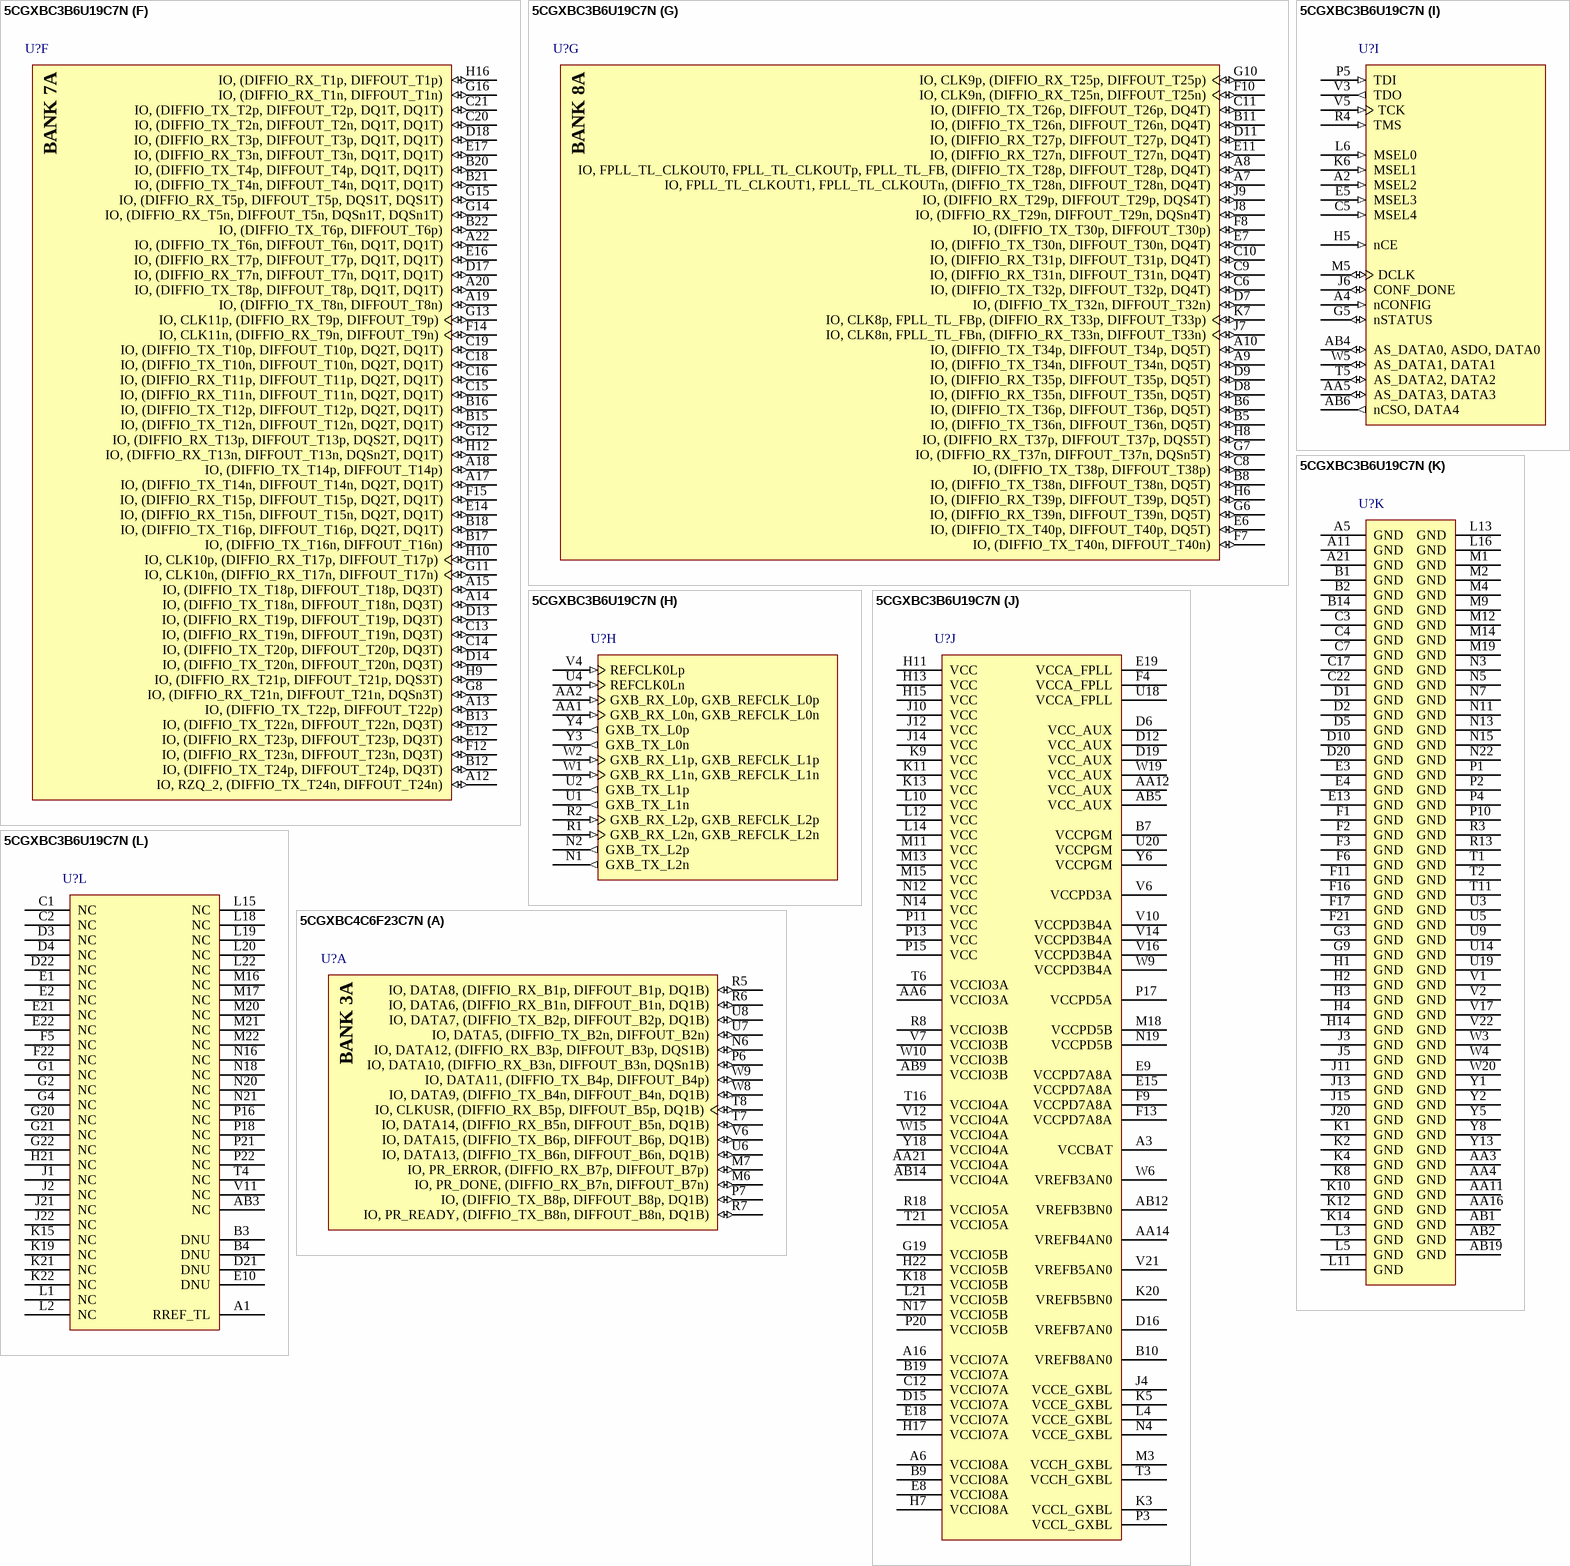
[diagram p4: symbols 5CGXBC3B6U19C7N to 5CGXBC4C6F23C7N]

## 5CGXBC3B6U19C7N
designator U?
Cyclone V GX Family FPGA, 1.07 to 1.13 V Supply, 208 I/O Pins, 4 PLLs, 484-Pin UBGA, Speed Grade 7, Commercial Grade, RoHS Compliant; Manufacturer: Altera; PartNumber: 5CGXBC3B6U19C7N; Device Group: 5CGXBC3; GPIO: 208; Logic Elements (LE) (K): 31.5; Speed Grade: 7; DatasheetVersion: Rev. 3.1; PackageVersion: 1; PackageReference: 484-UBGA-1900A; PackageDescription: 484-Pin Ultra FineLine Ball-Grid Array (UBGA), Body 19 x 19 mm, Pitch 0.8 mm; Supplier 1: Digi-Key; Supplier Part Number 1: 5CGXBC3B6U19C7N-ND; Supplier 2: Mouser; Supplier Part Number 2: 989-5CGXBC3B6U19C7N; RoHS: RoHS Compliant; Subcategory: Cyclone V GX; Voltage Supply: 1.07 to 1.13 V; Mounting Technology: Surface Mount; Code_JEDEC: MO-275-PPAA-2; ComponentLink1Description: Manufacturer URL; ComponentLink1URL: http://www.altera.com; ComponentLink2Description: Datasheet; ComponentLink2URL: http://www.altera.com/literature/hb/cyclone-v/cv_51002.pdf; ComponentLink3Description: Package Specification; ComponentLink3URL: http://www.altera.com/devicepackaging/04R00436-01.pdf; ComponentLink4Description: Device Handbook URL; ComponentLink4URL: http://www.altera.com/literature/hb/cyclone-v/cyclone5_handbook.pdf; ComponentLink5Description: Device Overview URL; ComponentLink5URL: http://www.altera.com/literature/hb/cyclone-v/cv_51001.pdf; ComponentLink6Description: Device Pin-Out URL; ComponentLink6URL: http://www.altera.com/literature/dp/cyclone-v/1.txt; ComponentLink7Description: Product URL; ComponentLink7URL: http://www.buyaltera.com/scripts/partsearch.dll?Detail&name=5CGXBC3B6U19C7N-ND
footprint ALTR-484-UBGA-1900A (UBGA, 484-Balls, Body 19x19mm, Pitch 0.8mm, Recommended)
part A pins: L7 IO, DATA13, (DIFFIO_TX_B6n, DIFFOUT_B6n, DQ1B) (io), L8 IO, DATA15, (DIFFIO_TX_B6p, DIFFOUT_B6p, DQ1B) (io), M6 IO, DATA10, (DIFFIO_RX_B3n, DIFFOUT_B3n, DQSn1B) (io), M7 IO, DATA12, (DIFFIO_RX_B3p, DIFFOUT_B3p, DQS1B) (io), N6 IO, DATA8, (DIFFIO_RX_B1p, DIFFOUT_B1p, DQ1B) (io), P6 IO, DATA6, (DIFFIO_RX_B1n, DIFFOUT_B1n, DQ1B) (io), P7 IO, PR_READY, (DIFFIO_TX_B8n, DIFFOUT_B8n, DQ1B) (io), P8 IO, (DIFFIO_TX_B8p, DIFFOUT_B8p, DQ1B) (io), R5 IO, DATA9, (DIFFIO_TX_B4n, DIFFOUT_B4n, DQ1B) (io), R6 IO, DATA11, (DIFFIO_TX_B4p, DIFFOUT_B4p) (io), R7 IO, DATA14, (DIFFIO_RX_B5n, DIFFOUT_B5n, DQ1B) (io), T7 IO, CLKUSR, (DIFFIO_RX_B5p, DIFFOUT_B5p, DQ1B) (io), T8 IO, PR_DONE, (DIFFIO_RX_B7n, DIFFOUT_B7n) (io), T9 IO, PR_ERROR, (DIFFIO_RX_B7p, DIFFOUT_B7p) (io), U6 IO, DATA7, (DIFFIO_TX_B2p, DIFFOUT_B2p, DQ1B) (io), U7 IO, DATA5, (DIFFIO_TX_B2n, DIFFOUT_B2n) (io)
part B pins: AA7 IO, (DIFFIO_TX_B12n, DIFFOUT_B12n, DQ2B) (io), AA8 IO, (DIFFIO_TX_B16p, DIFFOUT_B16p, DQ2B) (io), AA9 IO, (DIFFIO_RX_B18n, DIFFOUT_B18n, DQ3B) (io), AA10 IO, (DIFFIO_TX_B17p, DIFFOUT_B17p, DQ3B) (io), AB7 IO, (DIFFIO_TX_B12p, DIFFOUT_B12p) (io), AB8 IO, (DIFFIO_TX_B16n, DIFFOUT_B16n, DQ2B) (io), AB10 IO, FPLL_BL_CLKOUT1, FPLL_BL_CLKOUTn, (DIFFIO_TX_B21n, DIFFOUT_B21n, DQ3B) (io), AB11 IO, FPLL_BL_CLKOUT0, FPLL_BL_CLKOUTp, FPLL_BL_FB, (DIFFIO_TX_B21p, DIFFOUT_B21p, DQ3B) (io), L9 IO, (DIFFIO_RX_B19n, DIFFOUT_B19n, DQSn3B) (io), M8 IO, (DIFFIO_RX_B10p, DIFFOUT_B10p, DQ2B) (io), M10 IO, (DIFFIO_RX_B19p, DIFFOUT_B19p, DQS3B) (io), N8 IO, (DIFFIO_RX_B10n, DIFFOUT_B10n, DQ2B) (io), N9 IO, (DIFFIO_RX_B11n, DIFFOUT_B11n, DQSn2B) (io), N10 IO, (DIFFIO_RX_B11p, DIFFOUT_B11p, DQS2B) (io), P9 IO, CLK0p, FPLL_BL_FBp, (DIFFIO_RX_B15p, DIFFOUT_B15p) (io), P12 IO, (DIFFIO_TX_B24p, DIFFOUT_B24p, DQ3B) (io), R9 IO, CLK0n, FPLL_BL_FBn, (DIFFIO_RX_B15n, DIFFOUT_B15n) (io), R10 IO, CLK1p, (DIFFIO_RX_B23p, DIFFOUT_B23p) (io), R11 IO, (DIFFIO_TX_B24n, DIFFOUT_B24n, DQ3B) (io), T10 IO, CLK1n, (DIFFIO_RX_B23n, DIFFOUT_B23n) (io), U8 IO, (DIFFIO_RX_B14n, DIFFOUT_B14n, DQ2B) (io), U10 IO, (DIFFIO_RX_B22n, DIFFOUT_B22n, DQ3B) (io), U11 IO, (DIFFIO_RX_B22p, DIFFOUT_B22p, DQ3B) (io), V8 IO, (DIFFIO_TX_B9n, DIFFOUT_B9n) (io), V9 IO, (DIFFIO_RX_B14p, DIFFOUT_B14p, DQ2B) (io), W7 IO, (DIFFIO_TX_B13p, DIFFOUT_B13p, DQ2B) (io), W8 IO, (DIFFIO_TX_B9p, DIFFOUT_B9p, DQ2B) (io), W11 IO, (DIFFIO_TX_B20n, DIFFOUT_B20n, DQ3B) (io), Y7 IO, (DIFFIO_TX_B13n, DIFFOUT_B13n, DQ2B) (io), Y9 IO, (DIFFIO_RX_B18p, DIFFOUT_B18p, DQ3B) (io), Y10 IO, (DIFFIO_TX_B17n, DIFFOUT_B17n) (io), Y11 IO, (DIFFIO_TX_B20p, DIFFOUT_B20p) (io)
part C pins: AA13 IO, RZQ_0, (DIFFIO_TX_B25n, DIFFOUT_B25n) (io), AA15 IO, (DIFFIO_TX_B37n, DIFFOUT_B37n, DQ5B, DQ1B) (io), AA17 IO, (DIFFIO_TX_B44n, DIFFOUT_B44n, DQ6B, DQ1B) (io), AA18 IO, (DIFFIO_TX_B32p, DIFFOUT_B32p, DQ4B) (io), AA19 IO, (DIFFIO_TX_B33n, DIFFOUT_B33n) (io), AA20 IO, (DIFFIO_TX_B36n, DIFFOUT_B36n, DQ5B, DQ1B) (io), AA22 IO, (DIFFIO_TX_B41p, DIFFOUT_B41p, DQ6B, DQ1B) (io), AB13 IO, (DIFFIO_TX_B25p, DIFFOUT_B25p, DQ4B) (io), AB15 IO, (DIFFIO_TX_B29n, DIFFOUT_B29n, DQ4B) (io), AB16 IO, (DIFFIO_TX_B29p, DIFFOUT_B29p, DQ4B) (io), AB17 IO, (DIFFIO_TX_B44p, DIFFOUT_B44p) (io), AB18 IO, (DIFFIO_TX_B32n, DIFFOUT_B32n, DQ4B) (io), AB20 IO, (DIFFIO_TX_B40n, DIFFOUT_B40n, DQ5B, DQ1B) (io), AB21 IO, (DIFFIO_TX_B40p, DIFFOUT_B40p, DQ5B, DQ1B) (io), AB22 IO, (DIFFIO_TX_B41n, DIFFOUT_B41n) (io), P14 IO, (DIFFIO_RX_B35n, DIFFOUT_B35n, DQSn5B, DQ1B) (io), R12 IO, (DIFFIO_TX_B28n, DIFFOUT_B28n, DQ4B) (io), R14 IO, (DIFFIO_RX_B35p, DIFFOUT_B35p, DQS5B, DQ1B) (io), R15 IO, CLK3n, (DIFFIO_RX_B39n, DIFFOUT_B39n) (io), T12 IO, (DIFFIO_RX_B27p, DIFFOUT_B27p, DQS4B) (io), T13 IO, (DIFFIO_TX_B28p, DIFFOUT_B28p) (io), T14 IO, CLK2n, (DIFFIO_RX_B31n, DIFFOUT_B31n) (io), T15 IO, CLK3p, (DIFFIO_RX_B39p, DIFFOUT_B39p) (io), U12 IO, (DIFFIO_RX_B27n, DIFFOUT_B27n, DQSn4B) (io), U13 IO, CLK2p, (DIFFIO_RX_B31p, DIFFOUT_B31p) (io), U15 IO, (DIFFIO_RX_B38n, DIFFOUT_B38n, DQ5B, DQ1B) (io), U16 IO, (DIFFIO_RX_B43n, DIFFOUT_B43n, DQSn6B, DQSn1B) (io), U17 IO, (DIFFIO_RX_B43p, DIFFOUT_B43p, DQS6B, DQS1B) (io), V13 IO, (DIFFIO_RX_B30p, DIFFOUT_B30p, DQ4B) (io), V15 IO, (DIFFIO_RX_B38p, DIFFOUT_B38p, DQ5B, DQ1B) (io), V18 IO, (DIFFIO_RX_B46n, DIFFOUT_B46n, DQ6B, DQ1B) (io), W12 IO, (DIFFIO_RX_B26n, DIFFOUT_B26n, DQ4B) (io), W13 IO, (DIFFIO_RX_B30n, DIFFOUT_B30n, DQ4B) (io), W14 IO, (DIFFIO_RX_B34p, DIFFOUT_B34p, DQ5B, DQ1B) (io), W16 IO, (DIFFIO_RX_B47n, DIFFOUT_B47n) (io), W17 IO, (DIFFIO_RX_B47p, DIFFOUT_B47p) (io), W18 IO, (DIFFIO_RX_B46p, DIFFOUT_B46p, DQ6B, DQ1B) (io), W21 IO, (DIFFIO_TX_B48n, DIFFOUT_B48n, DQ6B, DQ1B) (io), W22 IO, (DIFFIO_TX_B48p, DIFFOUT_B48p, DQ6B, DQ1B) (io), Y12 IO, (DIFFIO_RX_B26p, DIFFOUT_B26p, DQ4B) (io), Y14 IO, (DIFFIO_RX_B34n, DIFFOUT_B34n, DQ5B, DQ1B) (io), Y15 IO, (DIFFIO_TX_B37p, DIFFOUT_B37p, DQ5B, DQ1B) (io), Y16 IO, (DIFFIO_RX_B42n, DIFFOUT_B42n, DQ6B, DQ1B) (io), Y17 IO, (DIFFIO_RX_B42p, DIFFOUT_B42p, DQ6B, DQ1B) (io), Y19 IO, (DIFFIO_TX_B33p, DIFFOUT_B33p, DQ5B, DQ1B) (io), Y20 IO, (DIFFIO_TX_B36p, DIFFOUT_B36p) (io), Y21 IO, (DIFFIO_TX_B45p, DIFFOUT_B45p, DQ6B, DQ1B) (io), Y22 IO, (DIFFIO_TX_B45n, DIFFOUT_B45n, DQ6B, DQ1B) (io)
part D pins: P19 IO, (DIFFIO_RX_R8n, DIFFOUT_R8n, DQ1R) (io), R16 IO, (DIFFIO_RX_R6p, DIFFOUT_R6p, DQS1R) (io), R17 IO, (DIFFIO_RX_R6n, DIFFOUT_R6n, DQSn1R) (io), R19 IO, (DIFFIO_RX_R8p, DIFFOUT_R8p, DQ1R) (io), R20 IO, (DIFFIO_TX_R7p, DIFFOUT_R7p, DQ1R) (io), R21 IO, (DIFFIO_TX_R7n, DIFFOUT_R7n) (io), R22 IO, DEV_CLRn, (DIFFIO_TX_R5n, DIFFOUT_R5n, DQ1R) (io), T17 IO, (DIFFIO_RX_R4p, DIFFOUT_R4p, DQ1R) (io), T18 IO, (DIFFIO_RX_R4n, DIFFOUT_R4n, DQ1R) (io), T19 IO, nCEO, (DIFFIO_TX_R3p, DIFFOUT_R3p, DQ1R) (io), T20 IO, CvP_CONFDONE, (DIFFIO_TX_R3n, DIFFOUT_R3n, DQ1R) (io), T22 IO, DEV_OE, (DIFFIO_TX_R5p, DIFFOUT_R5p) (io), U21 IO, PR_REQUEST, (DIFFIO_TX_R1n, DIFFOUT_R1n, DQ1R) (io), U22 IO, RZQ_1, (DIFFIO_TX_R1p, DIFFOUT_R1p, DQ1R) (io), V19 IO, CRC_ERROR, (DIFFIO_RX_R2n, DIFFOUT_R2n) (io), V20 IO, INIT_DONE, (DIFFIO_RX_R2p, DIFFOUT_R2p) (io)
part E pins: E20 IO, (DIFFIO_TX_R10p, DIFFOUT_R10p, DQ2R) (io), F18 IO, (DIFFIO_TX_R14n, DIFFOUT_R14n, DQ2R) (io), F19 IO, (DIFFIO_TX_R14p, DIFFOUT_R14p) (io), F20 IO, (DIFFIO_TX_R10n, DIFFOUT_R10n, DQ2R) (io), G17 IO, FPLL_BR_CLKOUT1, FPLL_BR_CLKOUTn, (DIFFIO_TX_R12n, DIFFOUT_R12n, DQ2R) (io), G18 IO, FPLL_BR_CLKOUT0, FPLL_BR_CLKOUTp, FPLL_BR_FB, (DIFFIO_TX_R12p, DIFFOUT_R12p, DQ2R) (io), H18 IO, (DIFFIO_TX_R16n, DIFFOUT_R16n) (io), H19 IO, (DIFFIO_RX_R11n, DIFFOUT_R11n, DQ2R) (io), H20 IO, (DIFFIO_RX_R11p, DIFFOUT_R11p, DQ2R) (io), J16 IO, (DIFFIO_RX_R13n, DIFFOUT_R13n, DQSn2R) (io), J17 IO, (DIFFIO_RX_R15p, DIFFOUT_R15p, DQ2R) (io), J18 IO, (DIFFIO_RX_R15n, DIFFOUT_R15n, DQ2R) (io), J19 IO, (DIFFIO_TX_R16p, DIFFOUT_R16p, DQ2R) (io), K16 IO, (DIFFIO_RX_R13p, DIFFOUT_R13p, DQS2R) (io), K17 IO, CLK6n, (DIFFIO_RX_R9n, DIFFOUT_R9n) (io), L17 IO, CLK6p, (DIFFIO_RX_R9p, DIFFOUT_R9p) (io)
part F pins: A12 IO, RZQ_2, (DIFFIO_TX_T24n, DIFFOUT_T24n) (io), A13 IO, (DIFFIO_TX_T22p, DIFFOUT_T22p) (io), A14 IO, (DIFFIO_TX_T18n, DIFFOUT_T18n, DQ3T) (io), A15 IO, (DIFFIO_TX_T18p, DIFFOUT_T18p, DQ3T) (io), A17 IO, (DIFFIO_TX_T14n, DIFFOUT_T14n, DQ2T, DQ1T) (io), A18 IO, (DIFFIO_TX_T14p, DIFFOUT_T14p) (io), A19 IO, (DIFFIO_TX_T8n, DIFFOUT_T8n) (io), A20 IO, (DIFFIO_TX_T8p, DIFFOUT_T8p, DQ1T, DQ1T) (io), A22 IO, (DIFFIO_TX_T6n, DIFFOUT_T6n, DQ1T, DQ1T) (io), B12 IO, (DIFFIO_TX_T24p, DIFFOUT_T24p, DQ3T) (io), B13 IO, (DIFFIO_TX_T22n, DIFFOUT_T22n, DQ3T) (io), B15 IO, (DIFFIO_TX_T12n, DIFFOUT_T12n, DQ2T, DQ1T) (io), B16 IO, (DIFFIO_TX_T12p, DIFFOUT_T12p, DQ2T, DQ1T) (io), B17 IO, (DIFFIO_TX_T16n, DIFFOUT_T16n) (io), B18 IO, (DIFFIO_TX_T16p, DIFFOUT_T16p, DQ2T, DQ1T) (io), B20 IO, (DIFFIO_TX_T4p, DIFFOUT_T4p, DQ1T, DQ1T) (io), B21 IO, (DIFFIO_TX_T4n, DIFFOUT_T4n, DQ1T, DQ1T) (io), B22 IO, (DIFFIO_TX_T6p, DIFFOUT_T6p) (io), C13 IO, (DIFFIO_RX_T19n, DIFFOUT_T19n, DQ3T) (io), C14 IO, (DIFFIO_TX_T20p, DIFFOUT_T20p, DQ3T) (io), C15 IO, (DIFFIO_RX_T11n, DIFFOUT_T11n, DQ2T, DQ1T) (io), C16 IO, (DIFFIO_RX_T11p, DIFFOUT_T11p, DQ2T, DQ1T) (io), C18 IO, (DIFFIO_TX_T10n, DIFFOUT_T10n, DQ2T, DQ1T) (io), C19 IO, (DIFFIO_TX_T10p, DIFFOUT_T10p, DQ2T, DQ1T) (io), C20 IO, (DIFFIO_TX_T2n, DIFFOUT_T2n, DQ1T, DQ1T) (io), C21 IO, (DIFFIO_TX_T2p, DIFFOUT_T2p, DQ1T, DQ1T) (io), D13 IO, (DIFFIO_RX_T19p, DIFFOUT_T19p, DQ3T) (io), D14 IO, (DIFFIO_TX_T20n, DIFFOUT_T20n, DQ3T) (io), D17 IO, (DIFFIO_RX_T7n, DIFFOUT_T7n, DQ1T, DQ1T) (io), D18 IO, (DIFFIO_RX_T3p, DIFFOUT_T3p, DQ1T, DQ1T) (io), E12 IO, (DIFFIO_RX_T23p, DIFFOUT_T23p, DQ3T) (io), E14 IO, (DIFFIO_RX_T15n, DIFFOUT_T15n, DQ2T, DQ1T) (io), E16 IO, (DIFFIO_RX_T7p, DIFFOUT_T7p, DQ1T, DQ1T) (io), E17 IO, (DIFFIO_RX_T3n, DIFFOUT_T3n, DQ1T, DQ1T) (io), F12 IO, (DIFFIO_RX_T23n, DIFFOUT_T23n, DQ3T) (io), F14 IO, CLK11n, (DIFFIO_RX_T9n, DIFFOUT_T9n) (io), F15 IO, (DIFFIO_RX_T15p, DIFFOUT_T15p, DQ2T, DQ1T) (io), G8 IO, (DIFFIO_RX_T21n, DIFFOUT_T21n, DQSn3T) (io), G11 IO, CLK10n, (DIFFIO_RX_T17n, DIFFOUT_T17n) (io), G12 IO, (DIFFIO_RX_T13p, DIFFOUT_T13p, DQS2T, DQ1T) (io), G13 IO, CLK11p, (DIFFIO_RX_T9p, DIFFOUT_T9p) (io), G14 IO, (DIFFIO_RX_T5n, DIFFOUT_T5n, DQSn1T, DQSn1T) (io), G15 IO, (DIFFIO_RX_T5p, DIFFOUT_T5p, DQS1T, DQS1T) (io), G16 IO, (DIFFIO_RX_T1n, DIFFOUT_T1n) (io), H9 IO, (DIFFIO_RX_T21p, DIFFOUT_T21p, DQS3T) (io), H10 IO, CLK10p, (DIFFIO_RX_T17p, DIFFOUT_T17p) (io), H12 IO, (DIFFIO_RX_T13n, DIFFOUT_T13n, DQSn2T, DQ1T) (io), H16 IO, (DIFFIO_RX_T1p, DIFFOUT_T1p) (io)
part G pins: A7 IO, FPLL_TL_CLKOUT1, FPLL_TL_CLKOUTn, (DIFFIO_TX_T28n, DIFFOUT_T28n, DQ4T) (io), A8 IO, FPLL_TL_CLKOUT0, FPLL_TL_CLKOUTp, FPLL_TL_FB, (DIFFIO_TX_T28p, DIFFOUT_T28p, DQ4T) (io), A9 IO, (DIFFIO_TX_T34n, DIFFOUT_T34n, DQ5T) (io), A10 IO, (DIFFIO_TX_T34p, DIFFOUT_T34p, DQ5T) (io), B5 IO, (DIFFIO_TX_T36n, DIFFOUT_T36n, DQ5T) (io), B6 IO, (DIFFIO_TX_T36p, DIFFOUT_T36p, DQ5T) (io), B8 IO, (DIFFIO_TX_T38n, DIFFOUT_T38n, DQ5T) (io), B11 IO, (DIFFIO_TX_T26n, DIFFOUT_T26n, DQ4T) (io), C6 IO, (DIFFIO_TX_T32p, DIFFOUT_T32p, DQ4T) (io), C8 IO, (DIFFIO_TX_T38p, DIFFOUT_T38p) (io), C9 IO, (DIFFIO_RX_T31n, DIFFOUT_T31n, DQ4T) (io), C10 IO, (DIFFIO_RX_T31p, DIFFOUT_T31p, DQ4T) (io), C11 IO, (DIFFIO_TX_T26p, DIFFOUT_T26p, DQ4T) (io), D7 IO, (DIFFIO_TX_T32n, DIFFOUT_T32n) (io), D8 IO, (DIFFIO_RX_T35n, DIFFOUT_T35n, DQ5T) (io), D9 IO, (DIFFIO_RX_T35p, DIFFOUT_T35p, DQ5T) (io), D11 IO, (DIFFIO_RX_T27p, DIFFOUT_T27p, DQ4T) (io), E6 IO, (DIFFIO_TX_T40p, DIFFOUT_T40p, DQ5T) (io), E7 IO, (DIFFIO_TX_T30n, DIFFOUT_T30n, DQ4T) (io), E11 IO, (DIFFIO_RX_T27n, DIFFOUT_T27n, DQ4T) (io), F7 IO, (DIFFIO_TX_T40n, DIFFOUT_T40n) (io), F8 IO, (DIFFIO_TX_T30p, DIFFOUT_T30p) (io), F10 IO, CLK9n, (DIFFIO_RX_T25n, DIFFOUT_T25n) (io), G6 IO, (DIFFIO_RX_T39n, DIFFOUT_T39n, DQ5T) (io), G7 IO, (DIFFIO_RX_T37n, DIFFOUT_T37n, DQSn5T) (io), G10 IO, CLK9p, (DIFFIO_RX_T25p, DIFFOUT_T25p) (io), H6 IO, (DIFFIO_RX_T39p, DIFFOUT_T39p, DQ5T) (io), H8 IO, (DIFFIO_RX_T37p, DIFFOUT_T37p, DQS5T) (io), J7 IO, CLK8n, FPLL_TL_FBn, (DIFFIO_RX_T33n, DIFFOUT_T33n) (io), J8 IO, (DIFFIO_RX_T29n, DIFFOUT_T29n, DQSn4T) (io), J9 IO, (DIFFIO_RX_T29p, DIFFOUT_T29p, DQS4T) (io), K7 IO, CLK8p, FPLL_TL_FBp, (DIFFIO_RX_T33p, DIFFOUT_T33p) (io)
part H pins: AA1 GXB_RX_L0n, GXB_REFCLK_L0n (in), AA2 GXB_RX_L0p, GXB_REFCLK_L0p (in), N1 GXB_TX_L2n (out), N2 GXB_TX_L2p (out), R1 GXB_RX_L2n, GXB_REFCLK_L2n (in), R2 GXB_RX_L2p, GXB_REFCLK_L2p (in), U1 GXB_TX_L1n (out), U2 GXB_TX_L1p (out), U4 REFCLK0Ln (in), V4 REFCLK0Lp (in), W1 GXB_RX_L1n, GXB_REFCLK_L1n (in), W2 GXB_RX_L1p, GXB_REFCLK_L1p (in), Y3 GXB_TX_L0n (out), Y4 GXB_TX_L0p (out)
part I pins: A2 MSEL2 (in), A4 nCONFIG (in), AA5 AS_DATA3, DATA3 (io), AB4 AS_DATA0, ASDO, DATA0 (io), AB6 nCSO, DATA4 (out), C5 MSEL4 (in), E5 MSEL3 (in), G5 nSTATUS (io), H5 nCE (in), J6 CONF_DONE (io), K6 MSEL1 (in), L6 MSEL0 (in), M5 DCLK (io), P5 TDI (in), R4 TMS (in), T5 AS_DATA2, DATA2 (io), V3 TDO (out), V5 TCK (in), W5 AS_DATA1, DATA1 (io)
part J pins: A3 VCCBAT (power), A6 VCCIO8A (power), A16 VCCIO7A (power), AA6 VCCIO3A (power), AA12 VCC_AUX (power), AA14 VREFB4AN0 (power), AA21 VCCIO4A (power), AB5 VCC_AUX (power), AB9 VCCIO3B (power), AB12 VREFB3BN0 (power), AB14 VCCIO4A (power), B7 VCCPGM (power), B9 VCCIO8A (power), B10 VREFB8AN0 (power), B19 VCCIO7A (power), C12 VCCIO7A (power), D6 VCC_AUX (power), D12 VCC_AUX (power), D15 VCCIO7A (power), D16 VREFB7AN0 (power), D19 VCC_AUX (power), E8 VCCIO8A (power), E9 VCCPD7A8A (power), E15 VCCPD7A8A (power), E18 VCCIO7A (power), E19 VCCA_FPLL (power), F4 VCCA_FPLL (power), F9 VCCPD7A8A (power), F13 VCCPD7A8A (power), G19 VCCIO5B (power), H7 VCCIO8A (power), H11 VCC (power), H13 VCC (power), H15 VCC (power), H17 VCCIO7A (power), H22 VCCIO5B (power), J4 VCCE_GXBL (power), J10 VCC (power), J12 VCC (power), J14 VCC (power), K3 VCCL_GXBL (power), K5 VCCE_GXBL (power), K9 VCC (power), K11 VCC (power), K13 VCC (power), K18 VCCIO5B (power), K20 VREFB5BN0 (power), L4 VCCE_GXBL (power), L10 VCC (power), L12 VCC (power), L14 VCC (power), L21 VCCIO5B (power), M3 VCCH_GXBL (power), M11 VCC (power), M13 VCC (power), M15 VCC (power), M18 VCCPD5B (power), N4 VCCE_GXBL (power), N12 VCC (power), N14 VCC (power), N17 VCCIO5B (power), N19 VCCPD5B (power), P3 VCCL_GXBL (power), P11 VCC (power), P13 VCC (power), P15 VCC (power), P17 VCCPD5A (power), P20 VCCIO5B (power), R8 VCCIO3B (power), R18 VCCIO5A (power), T3 VCCH_GXBL (power), T6 VCCIO3A (power), T16 VCCIO4A (power), T21 VCCIO5A (power), U18 VCCA_FPLL (power), U20 VCCPGM (power), V6 VCCPD3A (power), V7 VCCIO3B (power), V10 VCCPD3B4A (power), V12 VCCIO4A (power), V14 VCCPD3B4A (power), V16 VCCPD3B4A (power), V21 VREFB5AN0 (power), W6 VREFB3AN0 (power), W9 VCCPD3B4A (power), W10 VCCIO3B (power), W15 VCCIO4A (power), W19 VCC_AUX (power), Y6 VCCPGM (power), Y18 VCCIO4A (power)
part K pins: A5 GND (power), A11 GND (power), A21 GND (power), AA3 GND (power), AA4 GND (power), AA11 GND (power), AA16 GND (power), AB1 GND (power), AB2 GND (power), AB19 GND (power), B1 GND (power), B2 GND (power), B14 GND (power), C3 GND (power), C4 GND (power), C7 GND (power), C17 GND (power), C22 GND (power), D1 GND (power), D2 GND (power), D5 GND (power), D10 GND (power), D20 GND (power), E3 GND (power), E4 GND (power), E13 GND (power), F1 GND (power), F2 GND (power), F3 GND (power), F6 GND (power), F11 GND (power), F16 GND (power), F17 GND (power), F21 GND (power), G3 GND (power), G9 GND (power), H1 GND (power), H2 GND (power), H3 GND (power), H4 GND (power), H14 GND (power), J3 GND (power), J5 GND (power), J11 GND (power), J13 GND (power), J15 GND (power), J20 GND (power), K1 GND (power), K2 GND (power), K4 GND (power), K8 GND (power), K10 GND (power), K12 GND (power), K14 GND (power), L3 GND (power), L5 GND (power), L11 GND (power), L13 GND (power), L16 GND (power), M1 GND (power), M2 GND (power), M4 GND (power), M9 GND (power), M12 GND (power), M14 GND (power), M19 GND (power), N3 GND (power), N5 GND (power), N7 GND (power), N11 GND (power), N13 GND (power), N15 GND (power), N22 GND (power), P1 GND (power), P2 GND (power), P4 GND (power), P10 GND (power), R3 GND (power), R13 GND (power), T1 GND (power), T2 GND (power), T11 GND (power), U3 GND (power), U5 GND (power), U9 GND (power), U14 GND (power), U19 GND (power), V1 GND (power), V2 GND (power), V17 GND (power), V22 GND (power), W3 GND (power), W4 GND (power), W20 GND (power), Y1 GND (power), Y2 GND (power), Y5 GND (power), Y8 GND (power), Y13 GND (power)
part L pins: A1 RREF_TL, AB3 NC, B3 DNU, B4 DNU, C1 NC, C2 NC, D3 NC, D4 NC, D21 DNU, D22 NC, E1 NC, E2 NC, E10 DNU, E21 NC, E22 NC, F5 NC, F22 NC, G1 NC, G2 NC, G4 NC, G20 NC, G21 NC, G22 NC, H21 NC, J1 NC, J2 NC, J21 NC, J22 NC, K15 NC, K19 NC, K21 NC, K22 NC, L1 NC, L2 NC, L15 NC, L18 NC, L19 NC, L20 NC, L22 NC, M16 NC, M17 NC, M20 NC, M21 NC, M22 NC, N16 NC, N18 NC, N20 NC, N21 NC, P16 NC, P18 NC, P21 NC, P22 NC, T4 NC, V11 NC
part A text: BANK 3A
part B text: BANK 3B
part C text: BANK 4A
part D text: BANK 5A
part E text: BANK 5B
part F text: BANK 7A
part G text: BANK 8A

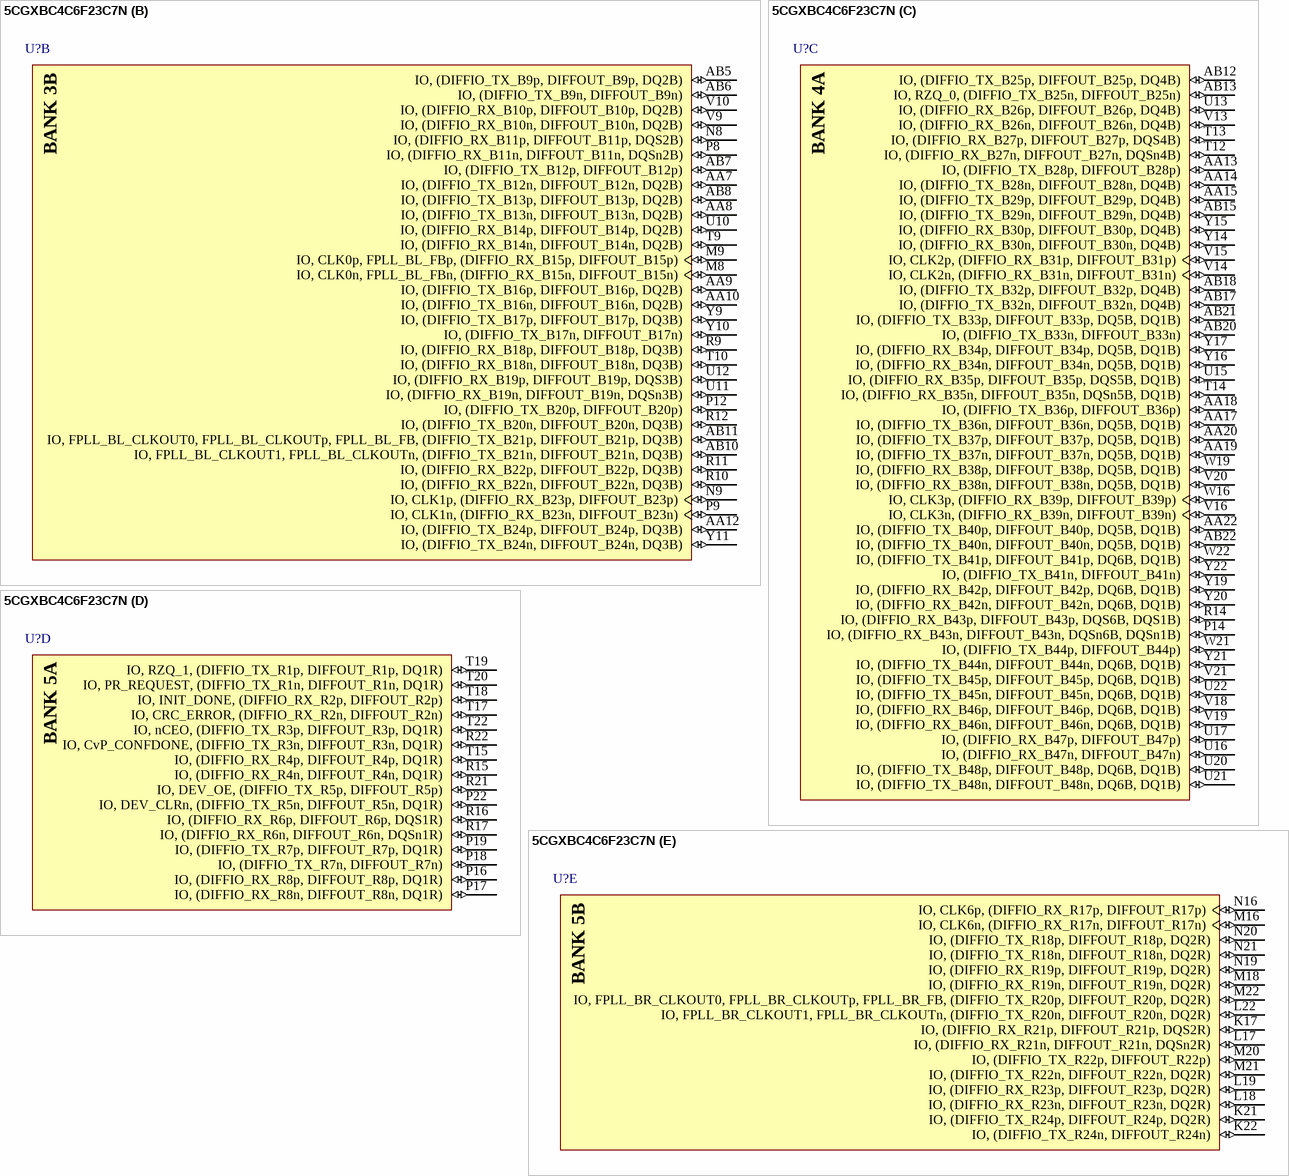
[diagram p5: symbol 5CGXBC4C6F23C7N]

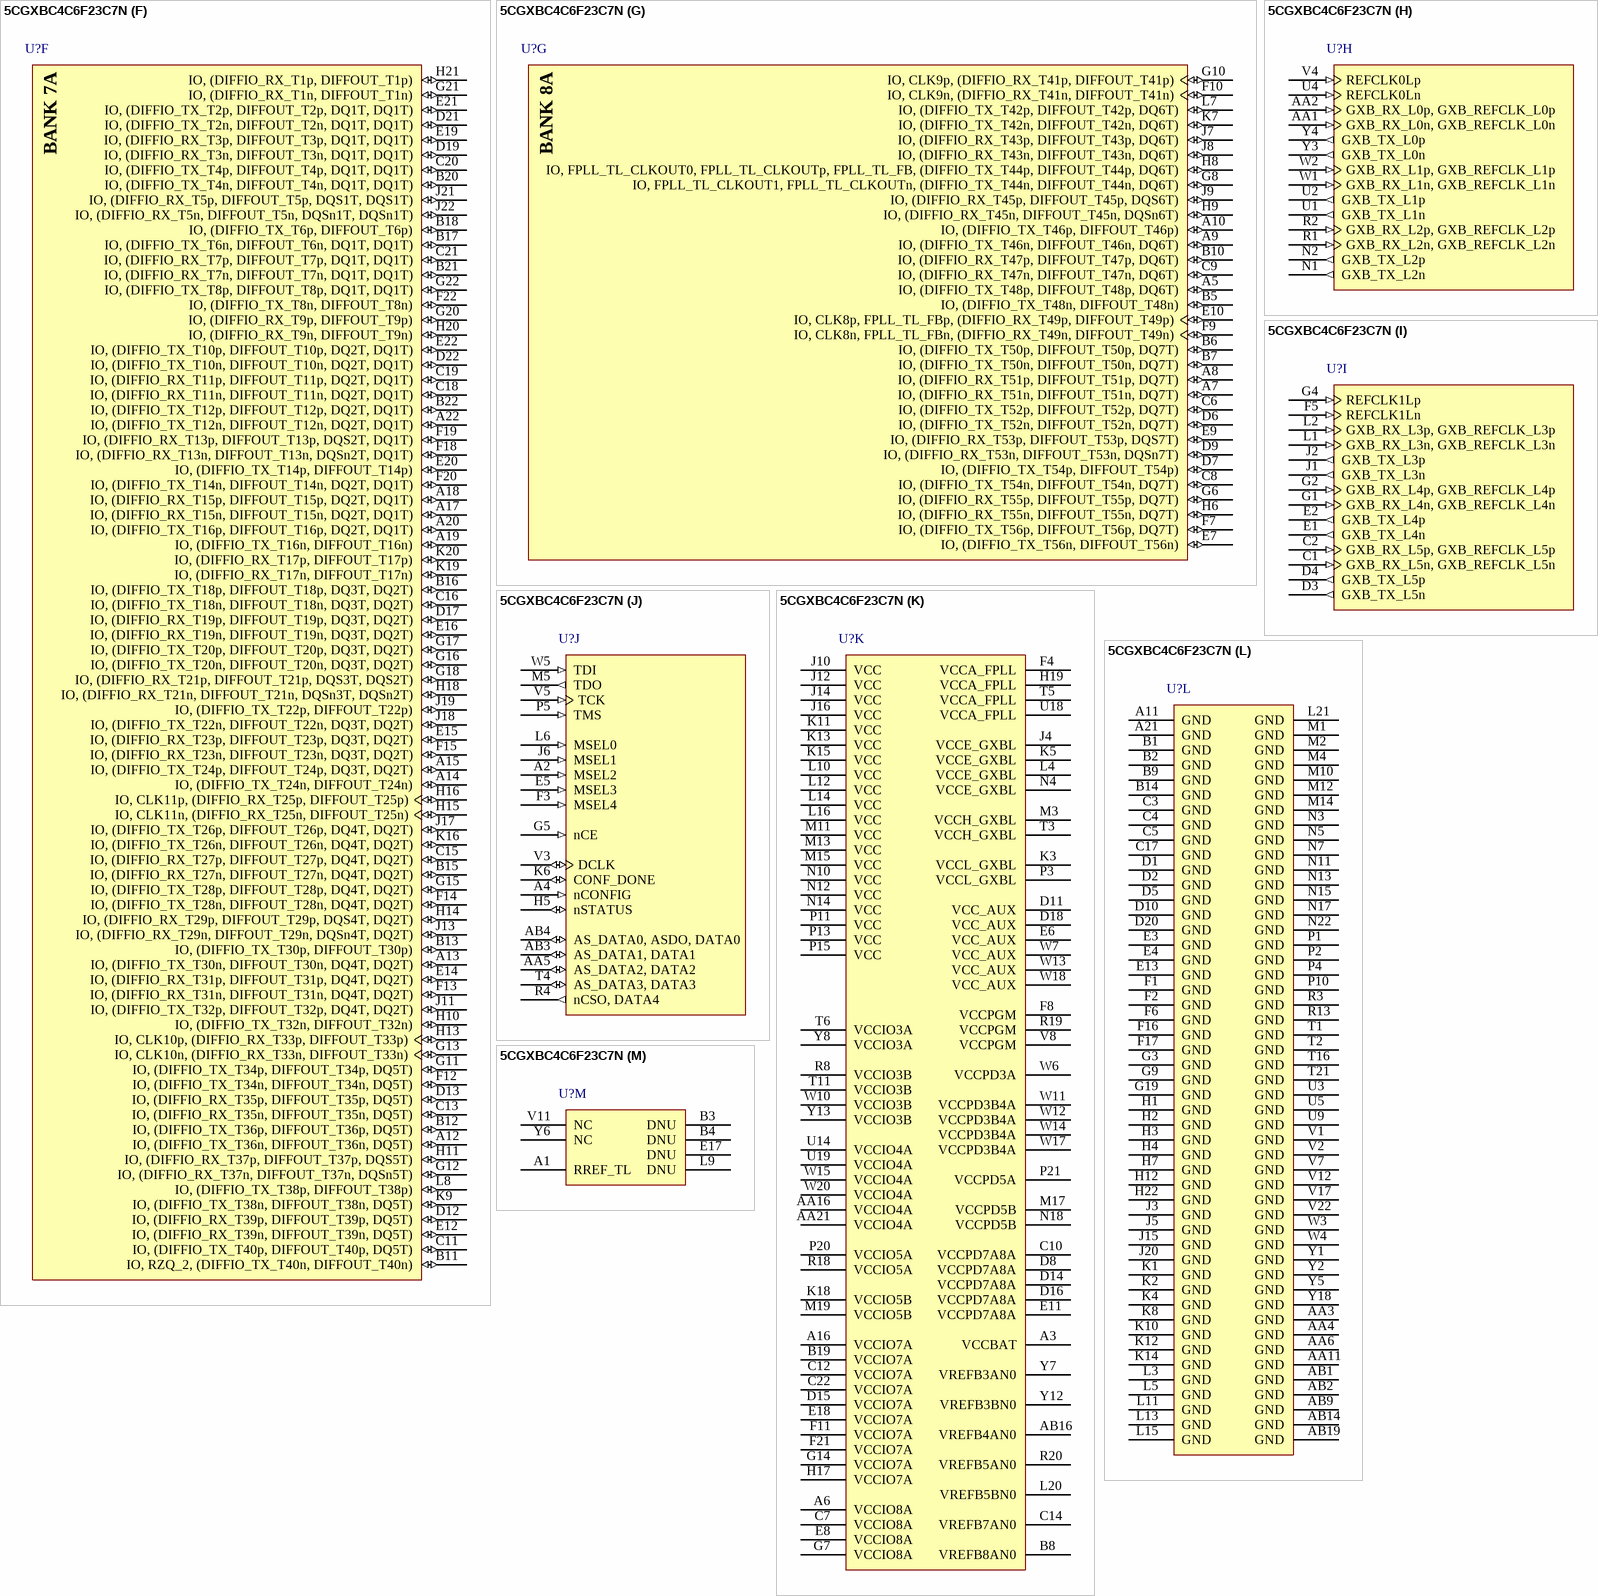
[diagram p6: symbol 5CGXBC4C6F23C7N]